# Altium integrated library Altera Cyclone IV E.IntLib: 141 symbols (part 24 of 34)
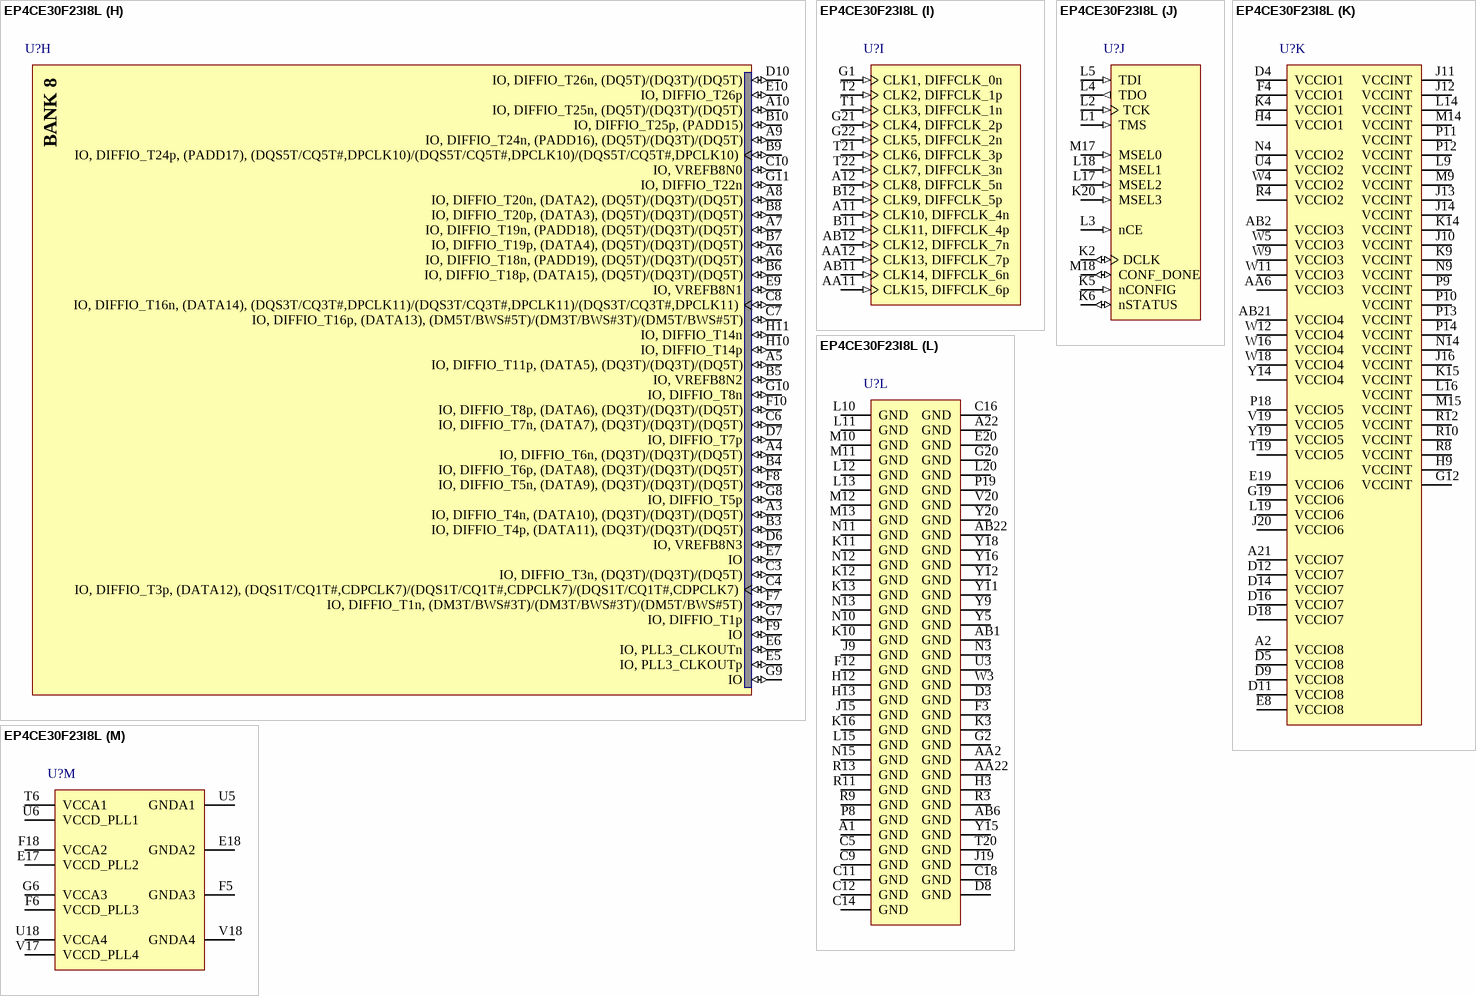
[diagram p414: symbol EP4CE30F23I8L]

## EP4CE30F23I8L
designator U?
Cyclone IV Family FPGA, 1V Core, 328 I/O Pins, 4 PLLs, 484-Pin FBGA, Speed Grade 8, Industrial Grade; Published: 3-May-2010; DatasheetVersion: ver1.2, Mar-2010; PackageVersion: ver16.0, Dec-2009; PackageReference: FBGA484; Publisher: Altium Limited; PackageDescription: 484-Ball FineLine Ball Grid Array (FBGA484) - Flip Chip; Supplier 1: Digi-Key; Supplier Part Number 1: EP4CE30F23I8L-ND; Code_JEDEC: MS-034-AAJ-1; Code_IPC: BGA100P22X22-484; ComponentLink1Description: Manufacturer Link; ComponentLink1URL: http://www.altera.com/; ComponentLink2Description: Handbook; ComponentLink2URL: http://www.altera.com/literature/hb/cyclone-iv/cyclone4-handbook.pdf; ComponentLink3Description: Pinout Specification; ComponentLink3URL: http://www.altera.com/literature/lit-dp.jsp?category=cyc%204&showspreadsheet=y; ComponentLink4Description: Packaging Specification; ComponentLink4URL: http://www.altera.com/literature/ds/dspkg.pdf
footprint FBGA484 (BGA, 484-Leads, Body 23x23mm, Pitch 1mm)
signal-integrity model EP4CE_F484 (Cyclone IV)
part A pins: B1 IO, DIFFIO_L2n, (DQ2L)/(DQ1L)/(DQ1L) (io), B2 IO, DIFFIO_L2p, (DQ2L)/(DQ1L)/(DQ1L) (io), C1 IO, DIFFIO_L7n, (DQ2L)/(DQ1L)/(DQ1L) (io), C2 IO, DIFFIO_L7p, (DQS2L/CQ3L,CDPCLK0)/(DQS2L/CQ3L,CDPCLK0)/(DQS2L/CQ3L,CDPCLK0) (io), D1 IO, DIFFIO_L8n, (DATA1,ASDO) (io), D2 IO, DIFFIO_L8p, (DQ2L)/(DQ1L)/(DQ1L) (io), E1 IO, DIFFIO_L10n, (_)/(DQ1L)/(DQ1L) (io), E2 IO, DIFFIO_L10p, (FLASH_nCE,nCSO) (io), E3 IO, DIFFIO_L4n, (DQ2L)/(DQ1L)/(DQ1L) (io), E4 IO, DIFFIO_L4p, (nRESET), (DQ2L)/(DQ1L)/(DQ1L) (io), F1 IO, DIFFIO_L12n, (DQ0L)/(DQ1L)/(DQ1L) (io), F2 IO, DIFFIO_L12p, (DM2L)/(DM1L/BWS#1L)/(DM1L/BWS#1L) (io), G3 IO, DIFFIO_L1n (io), G4 IO, DIFFIO_L1p (io), G5 IO, VREFB1N0 (io), H1 IO, DIFFIO_L23n, (DQ0L)/(DQ1L)/(DQ1L) (io), H2 IO, DIFFIO_L23p, (DQ0L)/(DQ1L)/(DQ1L) (io), H5 IO, VREFB1N2 (io), H6 IO, DIFFIO_L9p, (DQ2L)/(DQ1L)/(DQ1L) (io), H7 IO, VREFB1N1 (io), H8 IO, DIFFIO_L14p (io), J1 IO, DIFFIO_L24n, (DQ0L)/(DQ1L)/(DQ1L) (io), J2 IO, DIFFIO_L24p, (DQ0L)/(DQ1L)/(DQ1L) (io), J3 IO, VREFB1N3 (io), J4 IO, (DQS0L/CQ1L,DPCLK0)/(DQS0L/CQ1L,DPCLK0)/(DQS0L/CQ1L,DPCLK0) (io), J5 IO, DIFFIO_L18n (io), J6 IO, DIFFIO_L9n, (DQ2L)/(DQ1L)/(DQ1L) (io), J7 IO, DIFFIO_L21p (io), J8 IO, DIFFIO_L14n (io), K1 IO, (DATA0) (io), K7 IO, DIFFIO_L21n (io), K8 IO, DIFFIO_L20n (io), L8 IO, DIFFIO_L20p (io)
part B pins: AA1 IO, DIFFIO_L50n, (DQ3L)/(DQ3L)/(DQ1L) (io), L6 IO, DIFFIO_L26p, (DQ0L)/(DQ1L)/(DQ1L) (io), L7 IO, DIFFIO_L30n (io), M1 IO, DIFFIO_L27n, (_)/(DQ1L)/(DQ1L) (io), M2 IO, DIFFIO_L27p, (DQ0L)/(DQ1L)/(DQ1L) (io), M3 IO, DIFFIO_L28n, (DQ1L)/(DQ3L)/(DQ1L) (io), M4 IO, DIFFIO_L28p, (DM0L)/(DM1L/BWS#1L)/(DM1L/BWS#1L) (io), M5 IO, VREFB2N0 (io), M6 IO, DIFFIO_L26n, (DQ0L)/(DQ1L)/(DQ1L) (io), M7 IO, DIFFIO_L41n (io), M8 IO, DIFFIO_L42p (io), N1 IO, DIFFIO_L29n, (DQ1L)/(DQ3L)/(DQ1L) (io), N2 IO, DIFFIO_L29p, (DQ1L)/(DQ3L)/(DQ1L) (io), N5 IO, (DQ1L)/(DQ3L)/(DQ1L) (io), N6 IO, DIFFIO_L41p, (DQ3L)/(DQ3L)/(DQ1L) (io), N7 IO, DIFFIO_L49p (io), N8 IO, DIFFIO_L42n (io), P1 IO, DIFFIO_L32n, (DQ1L)/(DQ3L)/(DQ1L) (io), P2 IO, DIFFIO_L32p, (DQ1L)/(DQ3L)/(DQ1L) (io), P3 IO, DIFFIO_L34n, (DQ1L)/(DQ3L)/(DQ1L) (io), P4 IO, DIFFIO_L34p, (DQS1L/CQ1L#,DPCLK1)/(DQS1L/CQ1L#,DPCLK1)/(DQS1L/CQ1L#,DPCLK1) (io), P5 IO, VREFB2N1 (io), P6 IO, DIFFIO_L52p (io), P7 IO, DIFFIO_L49n (io), R1 IO, DIFFIO_L33n, (DQ1L)/(DQ3L)/(DQ1L) (io), R2 IO, DIFFIO_L33p, (DQ1L)/(DQ3L)/(DQ1L) (io), R5 IO, VREFB2N3 (io), R6 IO (io), R7 IO, DIFFIO_L53p (io), T3 IO, VREFB2N2 (io), T4 IO, (DQS3L/CQ3L#,CDPCLK1)/(DQS3L/CQ3L#,CDPCLK1)/(DQS3L/CQ3L#,CDPCLK1) (io), T5 IO, (DM3L/BWS#3L)/(DM3L/BWS#3L)/(DM1L/BWS#1L) (io), T7 IO, DIFFIO_L53n (io), U1 IO, DIFFIO_L35n, (DQ3L)/(DQ3L)/(DQ1L) (io), U2 IO, DIFFIO_L35p, (DM1L/BWS#1L)/(DM3L/BWS#3L)/(DM1L/BWS#1L) (io), V1 IO, DIFFIO_L38n, (DQ3L)/(DQ3L)/(DQ1L) (io), V2 IO, DIFFIO_L38p, (DQ3L)/(DQ3L)/(DQ1L) (io), V3 IO, RDN1 (io), V4 IO, RUP1 (io), W1 IO, DIFFIO_L44n, (DQ3L)/(DQ3L)/(DQ1L) (io), W2 IO, DIFFIO_L44p, (DQ3L)/(DQ3L)/(DQ1L) (io), Y1 IO, DIFFIO_L45n, (DQ3L)/(DQ3L)/(DQ1L) (io), Y2 IO, DIFFIO_L45p, (DQ3L)/(DQ3L)/(DQ1L) (io)
part C pins: AA3 IO, PLL1_CLKOUTp (io), AA4 IO, (DQ3B)/(DQ3B)/(DQ5B) (io), AA5 IO, DIFFIO_B8p, (DQ3B)/(DQ3B)/(DQ5B) (io), AA7 IO, DIFFIO_B14p, (DM5B/BWS#5B)/(DM3B/BWS#3B)/(DM5B/BWS#5B) (io), AA8 IO, DIFFIO_B18p, (DQ5B)/(DQ3B)/(DQ5B) (io), AA9 IO, DIFFIO_B21p, (DQ5B)/(DQ3B)/(DQ5B) (io), AA10 IO, DIFFIO_B27p, (DM4B)/(DM5B/BWS#5B)/(DM5B/BWS#5B) (io), AB3 IO, PLL1_CLKOUTn (io), AB4 IO, VREFB3N2 (io), AB5 IO, DIFFIO_B8n (io), AB7 IO, DIFFIO_B14n, (DQ5B)/(DQ3B)/(DQ5B) (io), AB8 IO, DIFFIO_B18n, (DQ5B)/(DQ3B)/(DQ5B) (io), AB9 IO, DIFFIO_B21n, (DQS5B/CQ5B#,DPCLK3)/(DQS5B/CQ5B#,DPCLK3)/(DQS5B/CQ5B#,DPCLK3) (io), AB10 IO, DIFFIO_B27n, (_)/(DQ5B)/(DQ5B) (io), T8 IO, DIFFIO_B11p (io), T9 IO, DIFFIO_B11n (io), T10 IO, DIFFIO_B15p (io), T11 IO, DIFFIO_B15n (io), U7 IO, DIFFIO_B3p (io), U8 IO, DIFFIO_B3n (io), U9 IO, DIFFIO_B13p, (DQ3B)/(DQ3B)/(DQ5B) (io), U10 IO, DIFFIO_B17n, (DQ5B)/(DQ3B)/(DQ5B) (io), U11 IO, VREFB3N0 (io), V5 IO, DIFFIO_B1n, (DM3B/BWS#3B)/(DM3B/BWS#3B)/(DM5B/BWS#5B) (io), V6 IO, DIFFIO_B1p (io), V7 IO, DIFFIO_B7n (io), V8 IO, DIFFIO_B13n, (DQ3B)/(DQ3B)/(DQ5B) (io), V9 IO, VREFB3N1 (io), V10 IO, DIFFIO_B16p, (DQS3B/CQ3B#,DPCLK2)/(DQS3B/CQ3B#,DPCLK2)/(DQS3B/CQ3B#,DPCLK2) (io), V11 IO, DIFFIO_B25n, (DQ5B)/(DQ3B)/(DQ5B) (io), W6 IO, DIFFIO_B7p, (DQ3B)/(DQ3B)/(DQ5B) (io), W7 IO, DIFFIO_B12p, (DQ3B)/(DQ3B)/(DQ5B) (io), W8 IO, (DQ3B)/(DQ3B)/(DQ5B) (io), W10 IO, DIFFIO_B26p, (DQ5B)/(DQ3B)/(DQ5B) (io), Y3 IO, DIFFIO_B4p, (DQ3B)/(DQ3B)/(DQ5B) (io), Y4 IO, VREFB3N3 (io), Y6 IO, DIFFIO_B6p, (DQS1B/CQ1B#,CDPCLK2)/(DQS1B/CQ1B#,CDPCLK2)/(DQS1B/CQ1B#,CDPCLK2) (io), Y7 IO, DIFFIO_B12n, (DQ3B)/(DQ3B)/(DQ5B) (io), Y8 IO, (DQ5B)/(DQ3B)/(DQ5B) (io), Y10 IO, DIFFIO_B26n, (DQ5B)/(DQ3B)/(DQ5B) (io)
part D pins: AA13 IO, DIFFIO_B28p, (DQ4B)/(DQ5B)/(DQ5B) (io), AA14 IO, DIFFIO_B29p, (DQ4B)/(DQ5B)/(DQ5B) (io), AA15 IO, DIFFIO_B33p, (DQ4B)/(DQ5B)/(DQ5B) (io), AA16 IO, DIFFIO_B35p, (DM2B)/(DM5B/BWS#5B)/(DM5B/BWS#5B) (io), AA17 IO, DIFFIO_B43p (io), AA18 IO, VREFB4N1 (io), AA19 IO, RUP2 (io), AA20 IO, DIFFIO_B49p, (_)/(DQ5B)/(DQ5B) (io), AB13 IO, DIFFIO_B28n, (DQ4B)/(DQ5B)/(DQ5B) (io), AB14 IO, DIFFIO_B29n, (DQ4B)/(DQ5B)/(DQ5B) (io), AB15 IO, DIFFIO_B33n, (DQ4B)/(DQ5B)/(DQ5B) (io), AB16 IO, DIFFIO_B35n, (DQ2B)/(DQ5B)/(DQ5B) (io), AB17 IO, DIFFIO_B43n (io), AB18 IO, (DQ2B)/(DQ5B)/(DQ5B) (io), AB19 IO, RDN2 (io), AB20 IO, DIFFIO_B49n, (DQ2B)/(DQ5B)/(DQ5B) (io), R14 IO, DIFFIO_B52p (io), R15 IO, DIFFIO_B52n (io), R16 IO, PLL4_CLKOUTn (io), T12 IO, DIFFIO_B36p (io), T13 IO, DIFFIO_B36n (io), T14 IO, DIFFIO_B42p (io), T15 IO, DIFFIO_B42n, (DQ2B)/(DQ5B)/(DQ5B) (io), T16 IO, PLL4_CLKOUTp (io), U12 IO, DIFFIO_B34p, (DQ4B)/(DQ5B)/(DQ5B) (io), U13 IO, DIFFIO_B38n (io), U14 IO, DIFFIO_B39n (io), U15 IO, DIFFIO_B40p (io), U16 IO, DIFFIO_B50p (io), U17 IO, DIFFIO_B50n (io), V12 IO, VREFB4N3 (io), V13 IO, (DQS2B/CQ3B,DPCLK5)/(DQS2B/CQ3B,DPCLK5)/(DQS2B/CQ3B,DPCLK5) (io), V14 IO, DIFFIO_B39p, (DQ2B)/(DQ5B)/(DQ5B) (io), V15 IO, DIFFIO_B40n, (DQ2B)/(DQ5B)/(DQ5B) (io), V16 IO, VREFB4N0 (io), W13 IO, DIFFIO_B32p, (DQ4B)/(DQ5B)/(DQ5B) (io), W14 IO, VREFB4N2 (io), W15 IO, DIFFIO_B41n, (DQ2B)/(DQ5B)/(DQ5B) (io), W17 IO, DIFFIO_B48p, (DQ2B)/(DQ5B)/(DQ5B) (io), Y13 IO, DIFFIO_B32n, (DQS4B/CQ5B,DPCLK4)/(DQS4B/CQ5B,DPCLK4)/(DQS4B/CQ5B,DPCLK4) (io), Y17 IO, DIFFIO_B48n, (DQS0B/CQ1B,CDPCLK3)/(DQS0B/CQ1B,CDPCLK3)/(DQS0B/CQ1B,CDPCLK3) (io)
part E pins: AA21 IO, DIFFIO_R56p, (DM3R/BWS#3R)/(DM3R/BWS#3R)/(DM1R/BWS#1R) (io), M16 IO, VREFB5N0 (io), M19 IO, DIFFIO_R30p, (DQ1R)/(DQ3R)/(DQ1R) (io), M20 IO, DIFFIO_R30n, (DQ1R)/(DQ3R)/(DQ1R) (io), M21 IO, DIFFIO_R31p, (DQ1R)/(DQ3R)/(DQ1R) (io), M22 IO, DIFFIO_R31n, (DQ1R)/(DQ3R)/(DQ1R) (io), N16 IO, DIFFIO_R40p (io), N17 IO, DIFFIO_R33n (io), N18 IO, DIFFIO_R33p, (DQS1R/CQ1R#,DPCLK6)/(DQS1R/CQ1R#,DPCLK6)/(DQS1R/CQ1R#,DPCLK6) (io), N19 IO, DIFFIO_R36p (io), N20 IO, DIFFIO_R36n, (DQ1R)/(DQ3R)/(DQ1R) (io), N21 IO, DIFFIO_R32p, (DEV_CLRn) (io), N22 IO, DIFFIO_R32n, (DEV_OE) (io), P15 IO, DIFFIO_R46n (io), P16 IO, DIFFIO_R46p (io), P17 IO (io), P20 IO, VREFB5N1 (io), P21 IO, DIFFIO_R38p, (DQ1R)/(DQ3R)/(DQ1R) (io), P22 IO, DIFFIO_R38n, (DQ1R)/(DQ3R)/(DQ1R) (io), R17 IO, VREFB5N2 (io), R18 IO, DIFFIO_R42n (io), R19 IO, DIFFIO_R42p, (DM1R/BWS#1R)/(DM3R/BWS#3R)/(DM1R/BWS#1R) (io), R20 IO, DIFFIO_R44n, (DQ3R)/(DQ3R)/(DQ1R) (io), R21 IO, DIFFIO_R39p, (DQ1R)/(DQ3R)/(DQ1R) (io), R22 IO, DIFFIO_R39n, (DQ1R)/(DQ3R)/(DQ1R) (io), T17 IO, RUP3 (io), T18 IO, RDN3 (io), U19 IO, DIFFIO_R50p (io), U20 IO, DIFFIO_R50n, (DQ3R)/(DQ3R)/(DQ1R) (io), U21 IO, DIFFIO_R43p, (DQ3R)/(DQ3R)/(DQ1R) (io), U22 IO, DIFFIO_R43n, (DQ3R)/(DQ3R)/(DQ1R) (io), V21 IO, DIFFIO_R45p, (DQ3R)/(DQ3R)/(DQ1R) (io), V22 IO, DIFFIO_R45n, (DQ3R)/(DQ3R)/(DQ1R) (io), W19 IO, VREFB5N3 (io), W20 IO, (DQS3R/CQ3R#,CDPCLK4)/(DQS3R/CQ3R#,CDPCLK4)/(DQS3R/CQ3R#,CDPCLK4) (io), W21 IO, DIFFIO_R49p, (DQ3R)/(DQ3R)/(DQ1R) (io), W22 IO, DIFFIO_R49n, (DQ3R)/(DQ3R)/(DQ1R) (io), Y21 IO, DIFFIO_R51p (io), Y22 IO, DIFFIO_R51n, (DQ3R)/(DQ3R)/(DQ1R) (io)
part F pins: B21 IO, DIFFIO_R5p, (PADD21), (DQ2R)/(DQ1R)/(DQ1R) (io), B22 IO, DIFFIO_R5n, (PADD22), (DQ2R)/(DQ1R)/(DQ1R) (io), C20 IO, DIFFIO_R4n, (PADD20), (DQS2R/CQ3R,CDPCLK5)/(DQS2R/CQ3R,CDPCLK5)/(DQS2R/CQ3R,CDPCLK5) (io), C21 IO, DIFFIO_R6p, (DQ2R)/(DQ1R)/(DQ1R) (io), C22 IO, DIFFIO_R6n, (DQ2R)/(DQ1R)/(DQ1R) (io), D20 IO, VREFB6N0 (io), D21 IO, DIFFIO_R9p, (_)/(DQ1R)/(DQ1R) (io), D22 IO, DIFFIO_R9n, (DM2R)/(DM1R/BWS#1R)/(DM1R/BWS#1R) (io), E21 IO, DIFFIO_R12p, (nOE), (_)/(DQ1R)/(DQ1R) (io), E22 IO, DIFFIO_R12n, (nWE), (DQ0R)/(DQ1R)/(DQ1R) (io), F17 IO, DIFFIO_R2n, (DQ2R)/(DQ1R)/(DQ1R) (io), F19 IO, DIFFIO_R8p, (DQ2R)/(DQ1R)/(DQ1R) (io), F20 IO, DIFFIO_R8n, (nAVD), (DQ2R)/(DQ1R)/(DQ1R) (io), F21 IO, DIFFIO_R18p, (DQ0R)/(DQ1R)/(DQ1R) (io), F22 IO, DIFFIO_R18n, (DQ0R)/(DQ1R)/(DQ1R) (io), G17 IO, DIFFIO_R2p (io), G18 IO, DIFFIO_R7n, (PADD23), (DQ2R)/(DQ1R)/(DQ1R) (io), H16 IO, DIFFIO_R10p (io), H17 IO, DIFFIO_R7p (io), H18 IO, VREFB6N1 (io), H19 IO, DIFFIO_R13p, (DQ0R)/(DQ1R)/(DQ1R) (io), H20 IO, DIFFIO_R13n, (DQ0R)/(DQ1R)/(DQ1R) (io), H21 IO, DIFFIO_R22p, (DQ0R)/(DQ1R)/(DQ1R) (io), H22 IO, DIFFIO_R22n, (DQ0R)/(DQ1R)/(DQ1R) (io), J17 IO, DIFFIO_R10n (io), J18 IO, VREFB6N2 (io), J21 IO, DIFFIO_R23p, (DM0R)/(DM1R/BWS#1R)/(DM1R/BWS#1R) (io), J22 IO, DIFFIO_R23n, (DQS0R/CQ1R,DPCLK7)/(DQS0R/CQ1R,DPCLK7)/(DQS0R/CQ1R,DPCLK7) (io), K17 IO, DIFFIO_R20n (io), K18 IO, DIFFIO_R20p, (DQ0R)/(DQ1R)/(DQ1R) (io), K19 IO, VREFB6N3 (io), K21 IO, DIFFIO_R24p, (CLKUSR) (io), K22 IO, DIFFIO_R24n, (nCEO) (io), L21 IO, DIFFIO_R27p, (CRC_ERROR) (io), L22 IO, DIFFIO_R27n, (INIT_DONE) (io)
part G pins: A13 IO, DIFFIO_T29n, (PADD11), (DQ4T)/(DQ5T)/(DQ5T) (io), A14 IO, DIFFIO_T31n, (PADD9), (DQ4T)/(DQ5T)/(DQ5T) (io), A15 IO, DIFFIO_T36n, (PADD5), (DQ4T)/(DQ5T)/(DQ5T) (io), A16 IO, DIFFIO_T40n, (DM2T)/(DM5T/BWS#5T)/(DM5T/BWS#5T) (io), A17 IO, DIFFIO_T41n, (PADD1), (DQ2T)/(DQ5T)/(DQ5T) (io), A18 IO, DIFFIO_T45n, (DQ2T)/(DQ5T)/(DQ5T) (io), A19 IO, RDN4 (io), A20 IO, PLL2_CLKOUTn (io), B13 IO, DIFFIO_T29p, (PADD12), (DQS4T/CQ5T,DPCLK9)/(DQS4T/CQ5T,DPCLK9)/(DQS4T/CQ5T,DPCLK9) (io), B14 IO, DIFFIO_T31p, (PADD10), (DQ4T)/(DQ5T)/(DQ5T) (io), B15 IO, DIFFIO_T36p, (PADD6), (DQ4T)/(DQ5T)/(DQ5T) (io), B16 IO, DIFFIO_T40p, (DQ4T)/(DQ5T)/(DQ5T) (io), B17 IO, DIFFIO_T41p, (PADD2), (_)/(DQ5T)/(DQ5T) (io), B18 IO, DIFFIO_T45p, (PADD0) (io), B19 IO, RUP4 (io), B20 IO, PLL2_CLKOUTp (io), C13 IO, DIFFIO_T35n, (PADD7) (io), C15 IO, VREFB7N2 (io), C17 IO, DIFFIO_T46p, (DQ2T)/(DQ5T)/(DQ5T) (io), C19 IO, DIFFIO_T47n, (DQ2T)/(DQ5T)/(DQ5T) (io), D13 IO, DIFFIO_T35p, (PADD8), (DQ4T)/(DQ5T)/(DQ5T) (io), D15 IO, VREFB7N1 (io), D17 IO, VREFB7N0 (io), D19 IO, DIFFIO_T47p, (DQ2T)/(DQ5T)/(DQ5T) (io), E11 IO, DIFFIO_T27n, (PADD13) (io), E12 IO, DIFFIO_T28p, (_)/(DQ5T)/(DQ5T) (io), E13 IO, VREFB7N3 (io), E14 IO, DIFFIO_T38n, (PADD3), (DQ4T)/(DQ5T)/(DQ5T) (io), E15 IO, DIFFIO_T44n, (DQ2T)/(DQ5T)/(DQ5T) (io), E16 IO, DIFFIO_T51p, (DQ2T)/(DQ5T)/(DQ5T) (io), F11 IO, DIFFIO_T27p, (PADD14), (DM4T)/(DM5T/BWS#5T)/(DM5T/BWS#5T) (io), F13 IO, DIFFIO_T37p, (PADD4), (DQS2T/CQ3T,DPCLK8)/(DQS2T/CQ3T,DPCLK8)/(DQS2T/CQ3T,DPCLK8) (io), F14 IO, DIFFIO_T49p, (DQS0T/CQ1T,CDPCLK6)/(DQS0T/CQ1T,CDPCLK6)/(DQS0T/CQ1T,CDPCLK6) (io), F15 IO, DIFFIO_T50n, (DQ2T)/(DQ5T)/(DQ5T) (io), F16 IO, DIFFIO_T51n (io), G13 IO, DIFFIO_T42n (io), G14 IO, DIFFIO_T44p (io), G15 IO, DIFFIO_T49n (io), G16 IO, DIFFIO_T50p (io), H14 IO, DIFFIO_T48p (io), H15 IO, DIFFIO_T48n (io)
part H pins: A3 IO, DIFFIO_T4n, (DATA10), (DQ3T)/(DQ3T)/(DQ5T) (io), A4 IO, DIFFIO_T6n, (DQ3T)/(DQ3T)/(DQ5T) (io), A5 IO, DIFFIO_T11p, (DATA5), (DQ3T)/(DQ3T)/(DQ5T) (io), A6 IO, DIFFIO_T18n, (PADD19), (DQ5T)/(DQ3T)/(DQ5T) (io), A7 IO, DIFFIO_T19n, (PADD18), (DQ5T)/(DQ3T)/(DQ5T) (io), A8 IO, DIFFIO_T20n, (DATA2), (DQ5T)/(DQ3T)/(DQ5T) (io), A9 IO, DIFFIO_T24n, (PADD16), (DQ5T)/(DQ3T)/(DQ5T) (io), A10 IO, DIFFIO_T25n, (DQ5T)/(DQ3T)/(DQ5T) (io), B3 IO, DIFFIO_T4p, (DATA11), (DQ3T)/(DQ3T)/(DQ5T) (io), B4 IO, DIFFIO_T6p, (DATA8), (DQ3T)/(DQ3T)/(DQ5T) (io), B5 IO, VREFB8N2 (io), B6 IO, DIFFIO_T18p, (DATA15), (DQ5T)/(DQ3T)/(DQ5T) (io), B7 IO, DIFFIO_T19p, (DATA4), (DQ5T)/(DQ3T)/(DQ5T) (io), B8 IO, DIFFIO_T20p, (DATA3), (DQ5T)/(DQ3T)/(DQ5T) (io), B9 IO, DIFFIO_T24p, (PADD17), (DQS5T/CQ5T#,DPCLK10)/(DQS5T/CQ5T#,DPCLK10)/(DQS5T/CQ5T#,DPCLK10) (io), B10 IO, DIFFIO_T25p, (PADD15) (io), C3 IO, DIFFIO_T3n, (DQ3T)/(DQ3T)/(DQ5T) (io), C4 IO, DIFFIO_T3p, (DATA12), (DQS1T/CQ1T#,CDPCLK7)/(DQS1T/CQ1T#,CDPCLK7)/(DQS1T/CQ1T#,CDPCLK7) (io), C6 IO, DIFFIO_T7n, (DATA7), (DQ3T)/(DQ3T)/(DQ5T) (io), C7 IO, DIFFIO_T16p, (DATA13), (DM5T/BWS#5T)/(DM3T/BWS#3T)/(DM5T/BWS#5T) (io), C8 IO, DIFFIO_T16n, (DATA14), (DQS3T/CQ3T#,DPCLK11)/(DQS3T/CQ3T#,DPCLK11)/(DQS3T/CQ3T#,DPCLK11) (io), C10 IO, VREFB8N0 (io), D6 IO, VREFB8N3 (io), D7 IO, DIFFIO_T7p (io), D10 IO, DIFFIO_T26n, (DQ5T)/(DQ3T)/(DQ5T) (io), E5 IO, PLL3_CLKOUTp (io), E6 IO, PLL3_CLKOUTn (io), E7 IO (io), E9 IO, VREFB8N1 (io), E10 IO, DIFFIO_T26p (io), F7 IO, DIFFIO_T1n, (DM3T/BWS#3T)/(DM3T/BWS#3T)/(DM5T/BWS#5T) (io), F8 IO, DIFFIO_T5n, (DATA9), (DQ3T)/(DQ3T)/(DQ5T) (io), F9 IO (io), F10 IO, DIFFIO_T8p, (DATA6), (DQ3T)/(DQ3T)/(DQ5T) (io), G7 IO, DIFFIO_T1p (io), G8 IO, DIFFIO_T5p (io), G9 IO (io), G10 IO, DIFFIO_T8n (io), G11 IO, DIFFIO_T22n (io), H10 IO, DIFFIO_T14p (io), H11 IO, DIFFIO_T14n (io)
part I pins: A11 CLK10, DIFFCLK_4n (in), A12 CLK8, DIFFCLK_5n (in), AA11 CLK15, DIFFCLK_6p (in), AA12 CLK13, DIFFCLK_7p (in), AB11 CLK14, DIFFCLK_6n (in), AB12 CLK12, DIFFCLK_7n (in), B11 CLK11, DIFFCLK_4p (in), B12 CLK9, DIFFCLK_5p (in), G1 CLK1, DIFFCLK_0n (in), G21 CLK4, DIFFCLK_2p (in), G22 CLK5, DIFFCLK_2n (in), T1 CLK3, DIFFCLK_1n (in), T2 CLK2, DIFFCLK_1p (in), T21 CLK6, DIFFCLK_3p (in), T22 CLK7, DIFFCLK_3n (in)
part J pins: K2 DCLK (io), K5 nCONFIG (in), K6 nSTATUS (io), K20 MSEL3 (in), L1 TMS (in), L2 TCK (in), L3 nCE (in), L4 TDO (out), L5 TDI (in), L17 MSEL2 (in), L18 MSEL1 (in), M17 MSEL0 (in), M18 CONF_DONE (io)
part K pins: A2 VCCIO8 (power), A21 VCCIO7 (power), AA6 VCCIO3 (power), AB2 VCCIO3 (power), AB21 VCCIO4 (power), D4 VCCIO1 (power), D5 VCCIO8 (power), D9 VCCIO8 (power), D11 VCCIO8 (power), D12 VCCIO7 (power), D14 VCCIO7 (power), D16 VCCIO7 (power), D18 VCCIO7 (power), E8 VCCIO8 (power), E19 VCCIO6 (power), F4 VCCIO1 (power), G12 VCCINT (power), G19 VCCIO6 (power), H4 VCCIO1 (power), H9 VCCINT (power), J10 VCCINT (power), J11 VCCINT (power), J12 VCCINT (power), J13 VCCINT (power), J14 VCCINT (power), J16 VCCINT (power), J20 VCCIO6 (power), K4 VCCIO1 (power), K9 VCCINT (power), K14 VCCINT (power), K15 VCCINT (power), L9 VCCINT (power), L14 VCCINT (power), L16 VCCINT (power), L19 VCCIO6 (power), M9 VCCINT (power), M14 VCCINT (power), M15 VCCINT (power), N4 VCCIO2 (power), N9 VCCINT (power), N14 VCCINT (power), P9 VCCINT (power), P10 VCCINT (power), P11 VCCINT (power), P12 VCCINT (power), P13 VCCINT (power), P14 VCCINT (power), P18 VCCIO5 (power), R4 VCCIO2 (power), R8 VCCINT (power), R10 VCCINT (power), R12 VCCINT (power), T19 VCCIO5 (power), U4 VCCIO2 (power), V19 VCCIO5 (power), W4 VCCIO2 (power), W5 VCCIO3 (power), W9 VCCIO3 (power), W11 VCCIO3 (power), W12 VCCIO4 (power), W16 VCCIO4 (power), W18 VCCIO4 (power), Y14 VCCIO4 (power), Y19 VCCIO5 (power)
part L pins: A1 GND (power), A22 GND (power), AA2 GND (power), AA22 GND (power), AB1 GND (power), AB6 GND (power), AB22 GND (power), C5 GND (power), C9 GND (power), C11 GND (power), C12 GND (power), C14 GND (power), C16 GND (power), C18 GND (power), D3 GND (power), D8 GND (power), E20 GND (power), F3 GND (power), F12 GND (power), G2 GND (power), G20 GND (power), H3 GND (power), H12 GND (power), H13 GND (power), J9 GND (power), J15 GND (power), J19 GND (power), K3 GND (power), K10 GND (power), K11 GND (power), K12 GND (power), K13 GND (power), K16 GND (power), L10 GND (power), L11 GND (power), L12 GND (power), L13 GND (power), L15 GND (power), L20 GND (power), M10 GND (power), M11 GND (power), M12 GND (power), M13 GND (power), N3 GND (power), N10 GND (power), N11 GND (power), N12 GND (power), N13 GND (power), N15 GND (power), P8 GND (power), P19 GND (power), R3 GND (power), R9 GND (power), R11 GND (power), R13 GND (power), T20 GND (power), U3 GND (power), V20 GND (power), W3 GND (power), Y5 GND (power), Y9 GND (power), Y11 GND (power), Y12 GND (power), Y15 GND (power), Y16 GND (power), Y18 GND (power), Y20 GND (power)
part M pins: E17 VCCD_PLL2 (power), E18 GNDA2 (power), F5 GNDA3 (power), F6 VCCD_PLL3 (power), F18 VCCA2 (power), G6 VCCA3 (power), T6 VCCA1 (power), U5 GNDA1 (power), U6 VCCD_PLL1 (power), U18 VCCA4 (power), V17 VCCD_PLL4 (power), V18 GNDA4 (power)
part A text: BANK 1
part B text: BANK 2
part C text: BANK 3
part D text: BANK 4
part E text: BANK 5
part F text: BANK 6
part G text: BANK 7
part H text: BANK 8

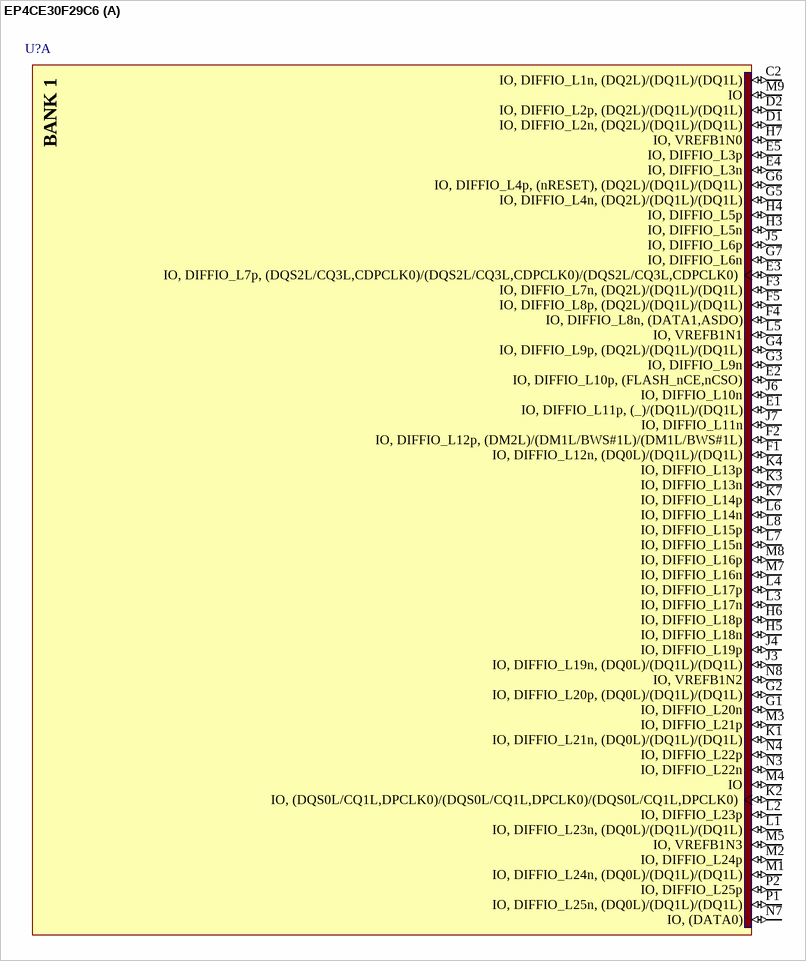
[diagram p112: symbol EP4CE30F29C6]

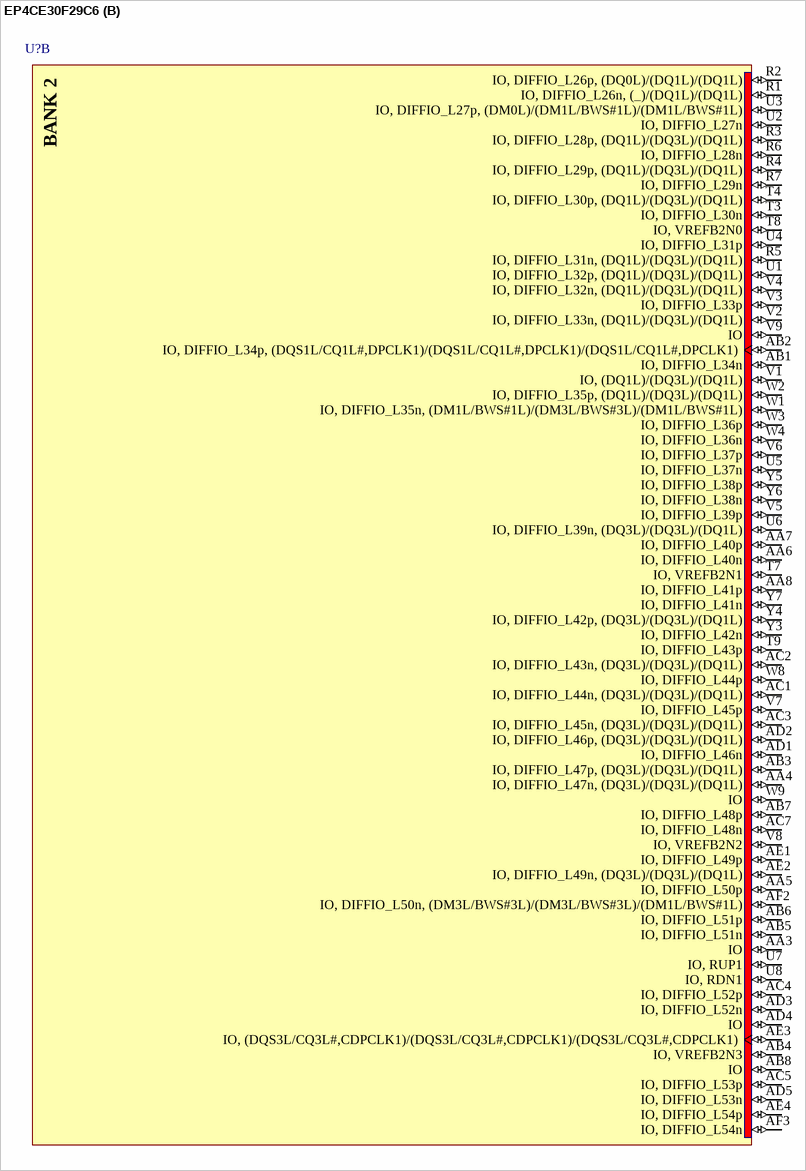
[diagram p113: symbol EP4CE30F29C6]

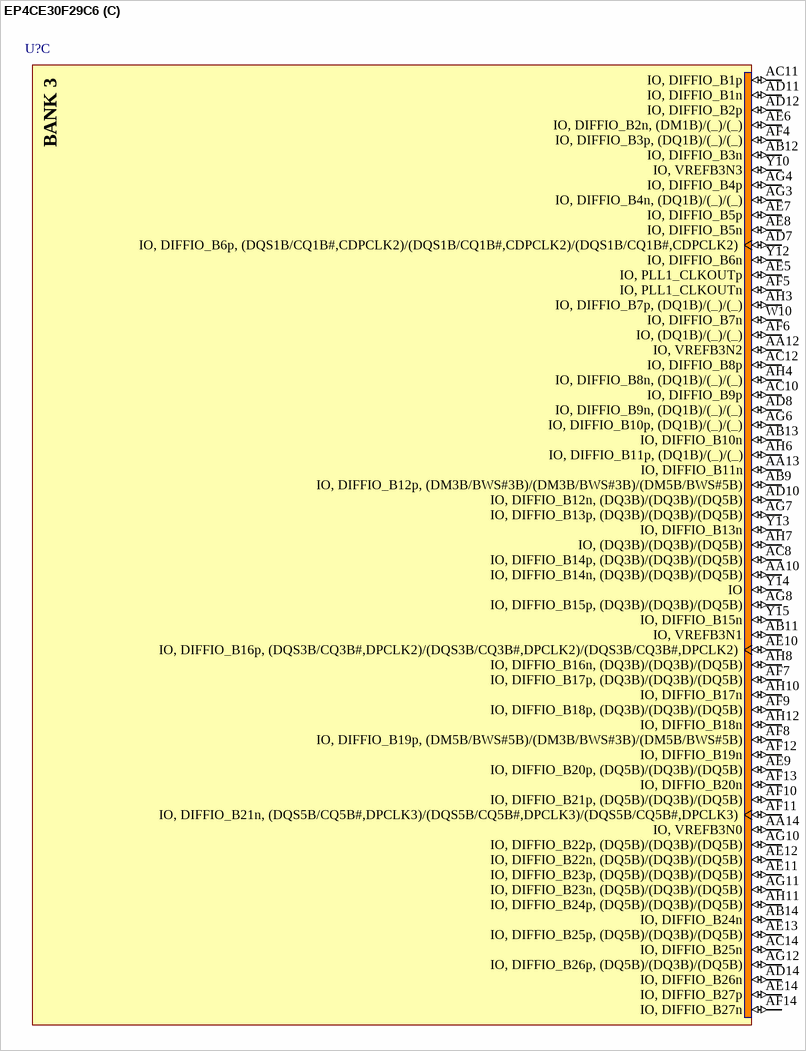
[diagram p114: symbol EP4CE30F29C6]

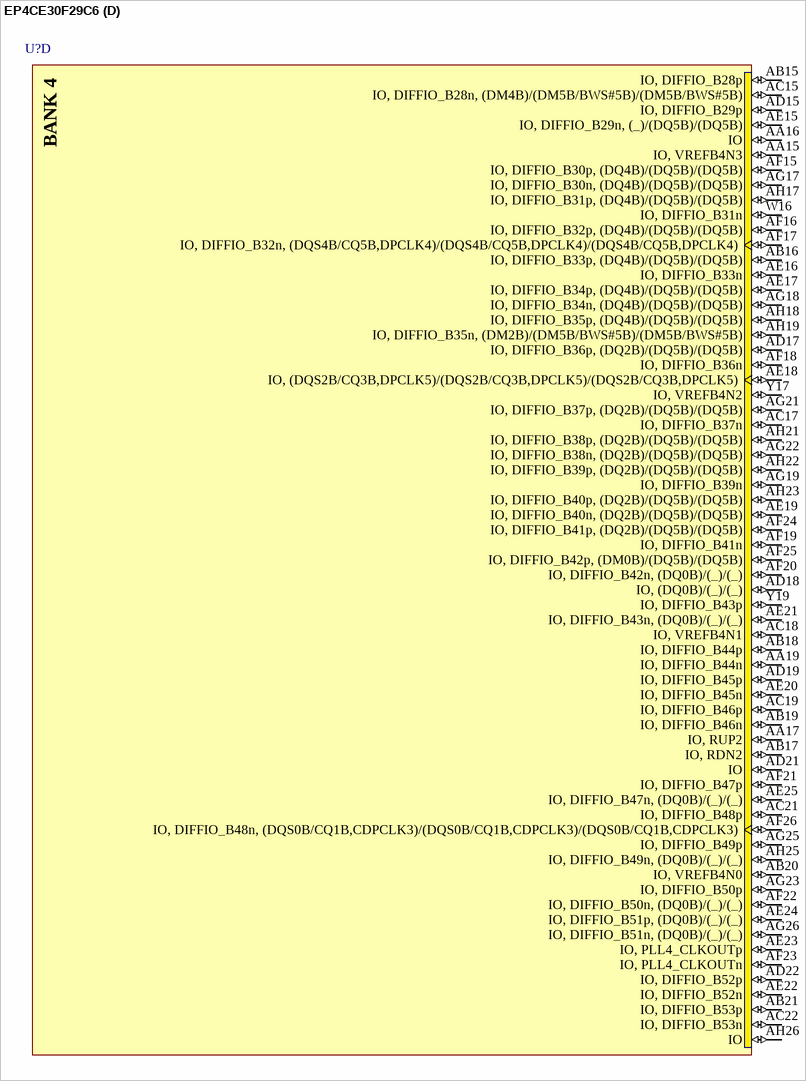
[diagram p115: symbol EP4CE30F29C6]

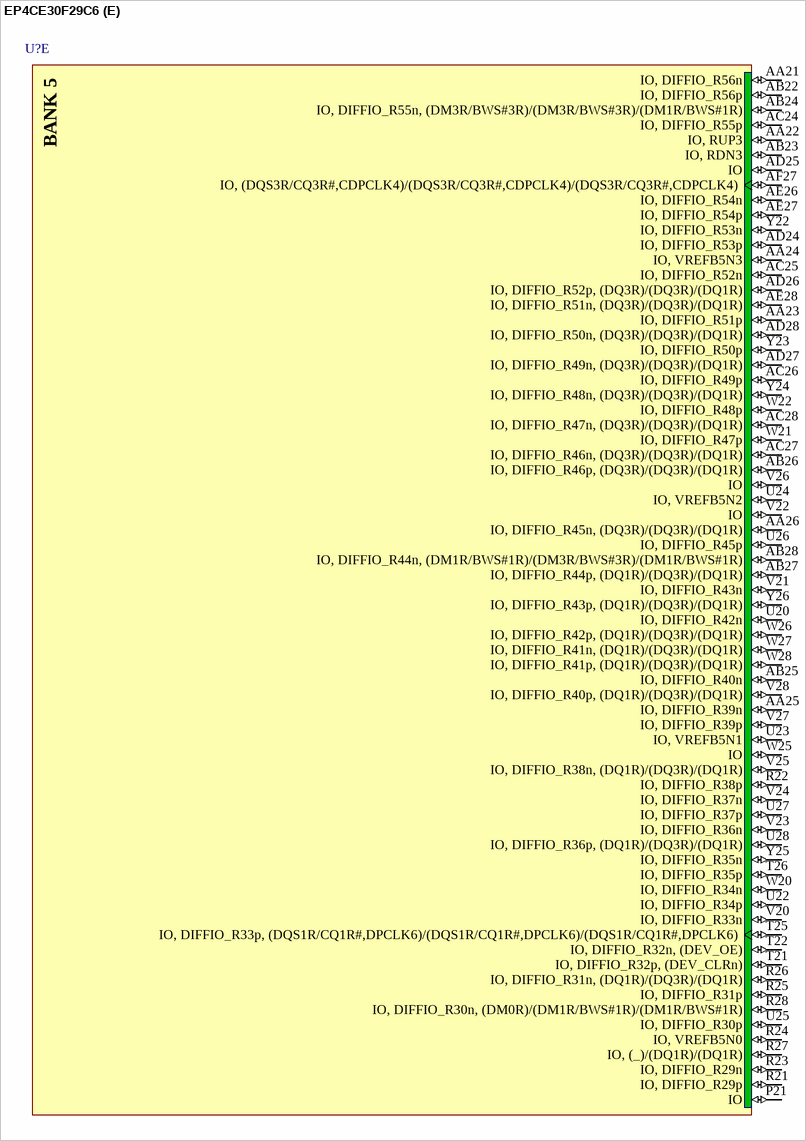
[diagram p116: symbol EP4CE30F29C6]

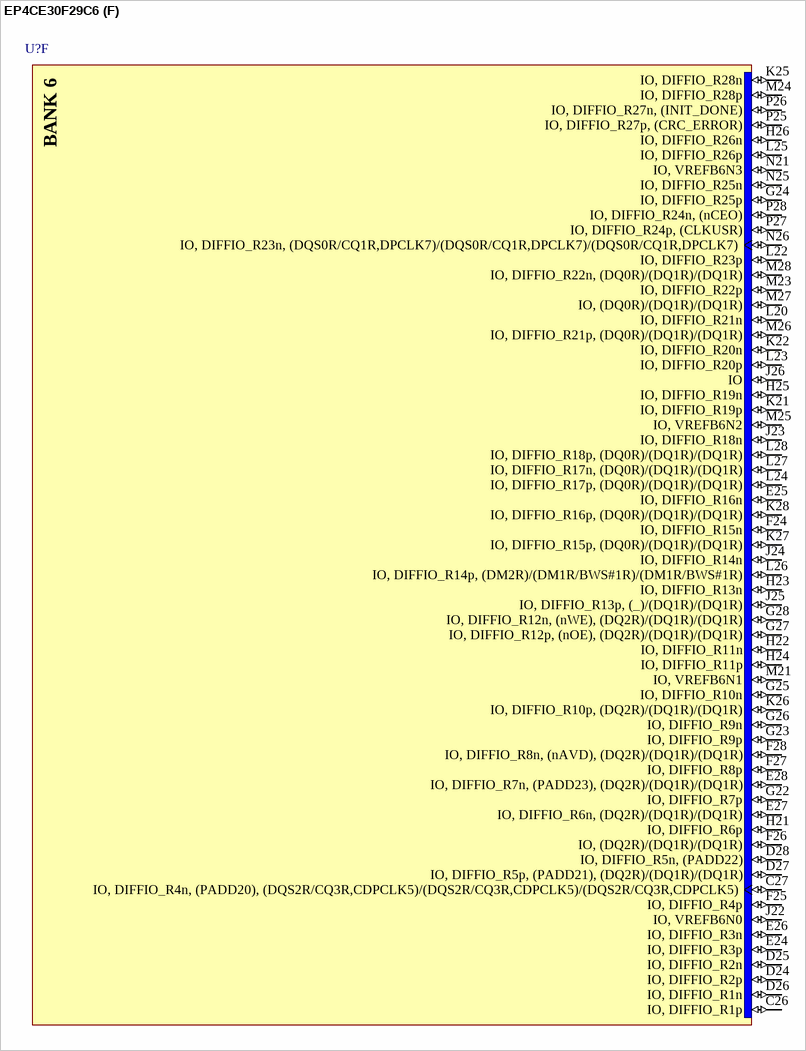
[diagram p117: symbol EP4CE30F29C6]

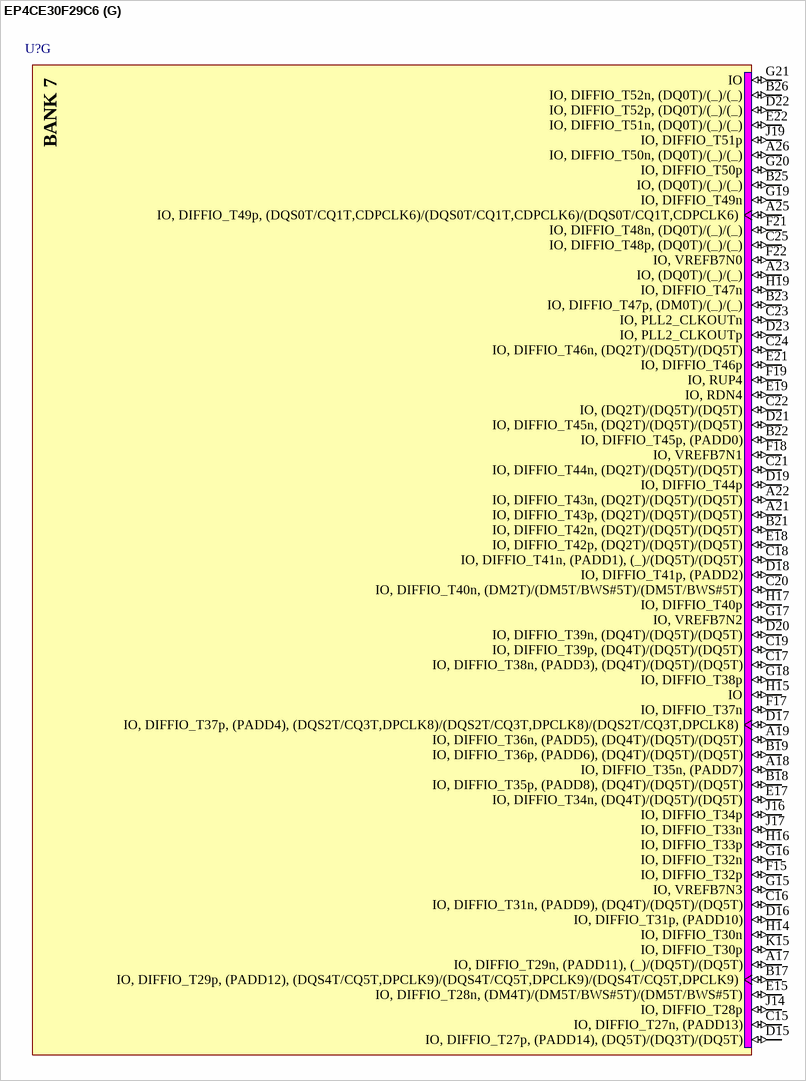
[diagram p118: symbol EP4CE30F29C6]

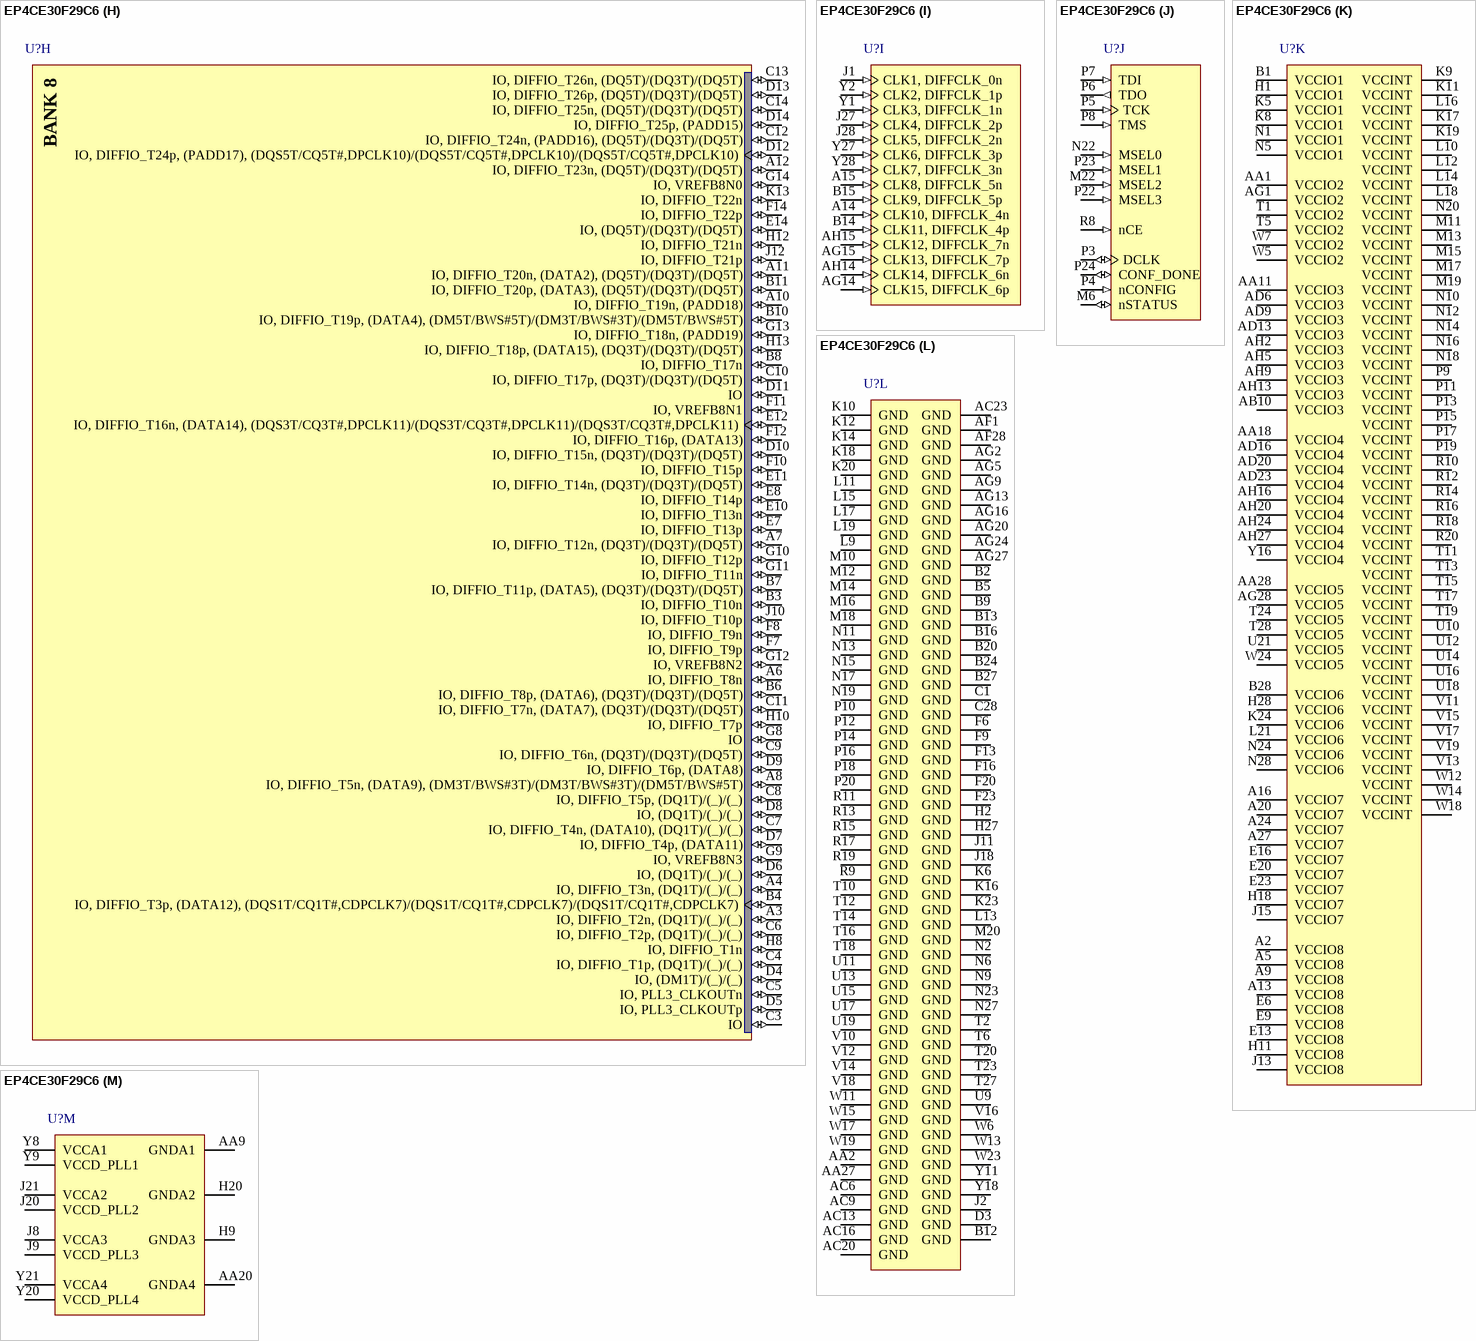
[diagram p119: symbol EP4CE30F29C6]

## EP4CE30F29C6
designator U?
Cyclone IV Family FPGA, 2V Core, 532 I/O Pins, 4 PLLs, 780-Pin FBGA, Speed Grade 6, Commercial Grade; Published: 3-May-2010; DatasheetVersion: ver1.2, Mar-2010; PackageVersion: ver16.0, Dec-2009; PackageReference: FBGA780; Publisher: Altium Limited; PackageDescription: 780-Ball FineLine Ball Grid Array (FBGA780) - Option 1 - Flip Chip; Supplier 1: Digi-Key; Supplier Part Number 1: EP4CE30F29C6-ND; Code_JEDEC: MS-034-AAM-1; ComponentLink1Description: Manufacturer Link; ComponentLink1URL: http://www.altera.com/; ComponentLink2Description: Handbook; ComponentLink2URL: http://www.altera.com/literature/hb/cyclone-iv/cyclone4-handbook.pdf; ComponentLink3Description: Pinout Specification; ComponentLink3URL: http://www.altera.com/literature/lit-dp.jsp?category=cyc%204&showspreadsheet=y; ComponentLink4Description: Packaging Specification; ComponentLink4URL: http://www.altera.com/literature/ds/dspkg.pdf
footprint FBGA780 (BGA, 780-Leads, Body 29x29mm, Pitch 1mm)
signal-integrity model EP4CE_F780 (Cyclone IV)
part A pins: C2 IO, DIFFIO_L1n, (DQ2L)/(DQ1L)/(DQ1L) (io), D1 IO, DIFFIO_L2n, (DQ2L)/(DQ1L)/(DQ1L) (io), D2 IO, DIFFIO_L2p, (DQ2L)/(DQ1L)/(DQ1L) (io), E1 IO, DIFFIO_L11p, (_)/(DQ1L)/(DQ1L) (io), E2 IO, DIFFIO_L10p, (FLASH_nCE,nCSO) (io), E3 IO, DIFFIO_L7p, (DQS2L/CQ3L,CDPCLK0)/(DQS2L/CQ3L,CDPCLK0)/(DQS2L/CQ3L,CDPCLK0) (io), E4 IO, DIFFIO_L3n (io), E5 IO, DIFFIO_L3p (io), F1 IO, DIFFIO_L12n, (DQ0L)/(DQ1L)/(DQ1L) (io), F2 IO, DIFFIO_L12p, (DM2L)/(DM1L/BWS#1L)/(DM1L/BWS#1L) (io), F3 IO, DIFFIO_L7n, (DQ2L)/(DQ1L)/(DQ1L) (io), F4 IO, DIFFIO_L8n, (DATA1,ASDO) (io), F5 IO, DIFFIO_L8p, (DQ2L)/(DQ1L)/(DQ1L) (io), G1 IO, DIFFIO_L20n (io), G2 IO, DIFFIO_L20p, (DQ0L)/(DQ1L)/(DQ1L) (io), G3 IO, DIFFIO_L9n (io), G4 IO, DIFFIO_L9p, (DQ2L)/(DQ1L)/(DQ1L) (io), G5 IO, DIFFIO_L4n, (DQ2L)/(DQ1L)/(DQ1L) (io), G6 IO, DIFFIO_L4p, (nRESET), (DQ2L)/(DQ1L)/(DQ1L) (io), G7 IO, DIFFIO_L6n (io), H3 IO, DIFFIO_L5n (io), H4 IO, DIFFIO_L5p (io), H5 IO, DIFFIO_L18n (io), H6 IO, DIFFIO_L18p (io), H7 IO, VREFB1N0 (io), J3 IO, DIFFIO_L19n, (DQ0L)/(DQ1L)/(DQ1L) (io), J4 IO, DIFFIO_L19p (io), J5 IO, DIFFIO_L6p (io), J6 IO, DIFFIO_L10n (io), J7 IO, DIFFIO_L11n (io), K1 IO, DIFFIO_L21n, (DQ0L)/(DQ1L)/(DQ1L) (io), K2 IO, (DQS0L/CQ1L,DPCLK0)/(DQS0L/CQ1L,DPCLK0)/(DQS0L/CQ1L,DPCLK0) (io), K3 IO, DIFFIO_L13n (io), K4 IO, DIFFIO_L13p (io), K7 IO, DIFFIO_L14p (io), L1 IO, DIFFIO_L23n, (DQ0L)/(DQ1L)/(DQ1L) (io), L2 IO, DIFFIO_L23p (io), L3 IO, DIFFIO_L17n (io), L4 IO, DIFFIO_L17p (io), L5 IO, VREFB1N1 (io), L6 IO, DIFFIO_L14n (io), L7 IO, DIFFIO_L15n (io), L8 IO, DIFFIO_L15p (io), M1 IO, DIFFIO_L24n, (DQ0L)/(DQ1L)/(DQ1L) (io), M2 IO, DIFFIO_L24p (io), M3 IO, DIFFIO_L21p (io), M4 IO (io), M5 IO, VREFB1N3 (io), M7 IO, DIFFIO_L16n (io), M8 IO, DIFFIO_L16p (io), M9 IO (io), N3 IO, DIFFIO_L22n (io), N4 IO, DIFFIO_L22p (io), N7 IO, (DATA0) (io), N8 IO, VREFB1N2 (io), P1 IO, DIFFIO_L25n, (DQ0L)/(DQ1L)/(DQ1L) (io), P2 IO, DIFFIO_L25p (io)
part B pins: AA3 IO (io), AA4 IO, DIFFIO_L47n, (DQ3L)/(DQ3L)/(DQ1L) (io), AA5 IO, DIFFIO_L50p (io), AA6 IO, DIFFIO_L40n (io), AA7 IO, DIFFIO_L40p (io), AA8 IO, DIFFIO_L41p (io), AB1 IO, DIFFIO_L34n (io), AB2 IO, DIFFIO_L34p, (DQS1L/CQ1L#,DPCLK1)/(DQS1L/CQ1L#,DPCLK1)/(DQS1L/CQ1L#,DPCLK1) (io), AB3 IO, DIFFIO_L47p, (DQ3L)/(DQ3L)/(DQ1L) (io), AB4 IO, VREFB2N3 (io), AB5 IO, DIFFIO_L51n (io), AB6 IO, DIFFIO_L51p (io), AB7 IO, DIFFIO_L48p (io), AB8 IO (io), AC1 IO, DIFFIO_L44n, (DQ3L)/(DQ3L)/(DQ1L) (io), AC2 IO, DIFFIO_L43n, (DQ3L)/(DQ3L)/(DQ1L) (io), AC3 IO, DIFFIO_L45n, (DQ3L)/(DQ3L)/(DQ1L) (io), AC4 IO, DIFFIO_L52p (io), AC5 IO, DIFFIO_L53p (io), AC7 IO, DIFFIO_L48n (io), AD1 IO, DIFFIO_L46n (io), AD2 IO, DIFFIO_L46p, (DQ3L)/(DQ3L)/(DQ1L) (io), AD3 IO, DIFFIO_L52n (io), AD4 IO (io), AD5 IO, DIFFIO_L53n (io), AE1 IO, DIFFIO_L49p (io), AE2 IO, DIFFIO_L49n, (DQ3L)/(DQ3L)/(DQ1L) (io), AE3 IO, (DQS3L/CQ3L#,CDPCLK1)/(DQS3L/CQ3L#,CDPCLK1)/(DQS3L/CQ3L#,CDPCLK1) (io), AE4 IO, DIFFIO_L54p (io), AF2 IO, DIFFIO_L50n, (DM3L/BWS#3L)/(DM3L/BWS#3L)/(DM1L/BWS#1L) (io), AF3 IO, DIFFIO_L54n (io), R1 IO, DIFFIO_L26n, (_)/(DQ1L)/(DQ1L) (io), R2 IO, DIFFIO_L26p, (DQ0L)/(DQ1L)/(DQ1L) (io), R3 IO, DIFFIO_L28p, (DQ1L)/(DQ3L)/(DQ1L) (io), R4 IO, DIFFIO_L29p, (DQ1L)/(DQ3L)/(DQ1L) (io), R5 IO, DIFFIO_L31n, (DQ1L)/(DQ3L)/(DQ1L) (io), R6 IO, DIFFIO_L28n (io), R7 IO, DIFFIO_L29n (io), T3 IO, DIFFIO_L30n (io), T4 IO, DIFFIO_L30p, (DQ1L)/(DQ3L)/(DQ1L) (io), T7 IO, VREFB2N1 (io), T8 IO, VREFB2N0 (io), T9 IO, DIFFIO_L43p (io), U1 IO, DIFFIO_L32p, (DQ1L)/(DQ3L)/(DQ1L) (io), U2 IO, DIFFIO_L27n (io), U3 IO, DIFFIO_L27p, (DM0L)/(DM1L/BWS#1L)/(DM1L/BWS#1L) (io), U4 IO, DIFFIO_L31p (io), U5 IO, DIFFIO_L37n (io), U6 IO, DIFFIO_L39n, (DQ3L)/(DQ3L)/(DQ1L) (io), U7 IO, RUP1 (io), U8 IO, RDN1 (io), V1 IO, (DQ1L)/(DQ3L)/(DQ1L) (io), V2 IO, DIFFIO_L33n, (DQ1L)/(DQ3L)/(DQ1L) (io), V3 IO, DIFFIO_L33p (io), V4 IO, DIFFIO_L32n, (DQ1L)/(DQ3L)/(DQ1L) (io), V5 IO, DIFFIO_L39p (io), V6 IO, DIFFIO_L37p (io), V7 IO, DIFFIO_L45p (io), V8 IO, VREFB2N2 (io), V9 IO (io), W1 IO, DIFFIO_L35n, (DM1L/BWS#1L)/(DM3L/BWS#3L)/(DM1L/BWS#1L) (io), W2 IO, DIFFIO_L35p, (DQ1L)/(DQ3L)/(DQ1L) (io), W3 IO, DIFFIO_L36p (io), W4 IO, DIFFIO_L36n (io), W8 IO, DIFFIO_L44p (io), W9 IO (io), Y3 IO, DIFFIO_L42n (io), Y4 IO, DIFFIO_L42p, (DQ3L)/(DQ3L)/(DQ1L) (io), Y5 IO, DIFFIO_L38p (io), Y6 IO, DIFFIO_L38n (io), Y7 IO, DIFFIO_L41n (io)
part C pins: AA10 IO, DIFFIO_B14n, (DQ3B)/(DQ3B)/(DQ5B) (io), AA12 IO, VREFB3N2 (io), AA13 IO, DIFFIO_B11n (io), AA14 IO, VREFB3N0 (io), AB9 IO, DIFFIO_B12p, (DM3B/BWS#3B)/(DM3B/BWS#3B)/(DM5B/BWS#5B) (io), AB11 IO, VREFB3N1 (io), AB12 IO, DIFFIO_B3n (io), AB13 IO, DIFFIO_B10n (io), AB14 IO, DIFFIO_B24n (io), AC8 IO, DIFFIO_B14p, (DQ3B)/(DQ3B)/(DQ5B) (io), AC10 IO, DIFFIO_B9p (io), AC11 IO, DIFFIO_B1p (io), AC12 IO, DIFFIO_B8p (io), AC14 IO, DIFFIO_B25n (io), AD7 IO, DIFFIO_B6p, (DQS1B/CQ1B#,CDPCLK2)/(DQS1B/CQ1B#,CDPCLK2)/(DQS1B/CQ1B#,CDPCLK2) (io), AD8 IO, DIFFIO_B9n, (DQ1B)/(_)/(_) (io), AD10 IO, DIFFIO_B12n, (DQ3B)/(DQ3B)/(DQ5B) (io), AD11 IO, DIFFIO_B1n (io), AD12 IO, DIFFIO_B2p (io), AD14 IO, DIFFIO_B26n (io), AE5 IO, PLL1_CLKOUTp (io), AE6 IO, DIFFIO_B2n, (DM1B)/(_)/(_) (io), AE7 IO, DIFFIO_B5p (io), AE8 IO, DIFFIO_B5n (io), AE9 IO, DIFFIO_B20p, (DQ5B)/(DQ3B)/(DQ5B) (io), AE10 IO, DIFFIO_B16p, (DQS3B/CQ3B#,DPCLK2)/(DQS3B/CQ3B#,DPCLK2)/(DQS3B/CQ3B#,DPCLK2) (io), AE11 IO, DIFFIO_B23p, (DQ5B)/(DQ3B)/(DQ5B) (io), AE12 IO, DIFFIO_B22n, (DQ5B)/(DQ3B)/(DQ5B) (io), AE13 IO, DIFFIO_B25p, (DQ5B)/(DQ3B)/(DQ5B) (io), AE14 IO, DIFFIO_B27p (io), AF4 IO, DIFFIO_B3p, (DQ1B)/(_)/(_) (io), AF5 IO, PLL1_CLKOUTn (io), AF6 IO, (DQ1B)/(_)/(_) (io), AF7 IO, DIFFIO_B17p, (DQ3B)/(DQ3B)/(DQ5B) (io), AF8 IO, DIFFIO_B19p, (DM5B/BWS#5B)/(DM3B/BWS#3B)/(DM5B/BWS#5B) (io), AF9 IO, DIFFIO_B18p, (DQ3B)/(DQ3B)/(DQ5B) (io), AF10 IO, DIFFIO_B21p, (DQ5B)/(DQ3B)/(DQ5B) (io), AF11 IO, DIFFIO_B21n, (DQS5B/CQ5B#,DPCLK3)/(DQS5B/CQ5B#,DPCLK3)/(DQS5B/CQ5B#,DPCLK3) (io), AF12 IO, DIFFIO_B19n (io), AF13 IO, DIFFIO_B20n (io), AF14 IO, DIFFIO_B27n (io), AG3 IO, DIFFIO_B4n, (DQ1B)/(_)/(_) (io), AG4 IO, DIFFIO_B4p (io), AG6 IO, DIFFIO_B10p, (DQ1B)/(_)/(_) (io), AG7 IO, DIFFIO_B13p, (DQ3B)/(DQ3B)/(DQ5B) (io), AG8 IO, DIFFIO_B15p, (DQ3B)/(DQ3B)/(DQ5B) (io), AG10 IO, DIFFIO_B22p, (DQ5B)/(DQ3B)/(DQ5B) (io), AG11 IO, DIFFIO_B23n, (DQ5B)/(DQ3B)/(DQ5B) (io), AG12 IO, DIFFIO_B26p, (DQ5B)/(DQ3B)/(DQ5B) (io), AH3 IO, DIFFIO_B7p, (DQ1B)/(_)/(_) (io), AH4 IO, DIFFIO_B8n, (DQ1B)/(_)/(_) (io), AH6 IO, DIFFIO_B11p, (DQ1B)/(_)/(_) (io), AH7 IO, (DQ3B)/(DQ3B)/(DQ5B) (io), AH8 IO, DIFFIO_B16n, (DQ3B)/(DQ3B)/(DQ5B) (io), AH10 IO, DIFFIO_B17n (io), AH11 IO, DIFFIO_B24p, (DQ5B)/(DQ3B)/(DQ5B) (io), AH12 IO, DIFFIO_B18n (io), W10 IO, DIFFIO_B7n (io), Y10 IO, VREFB3N3 (io), Y12 IO, DIFFIO_B6n (io), Y13 IO, DIFFIO_B13n (io), Y14 IO (io), Y15 IO, DIFFIO_B15n (io)
part D pins: AA15 IO, VREFB4N3 (io), AA16 IO (io), AA17 IO, RUP2 (io), AA19 IO, DIFFIO_B44n (io), AB15 IO, DIFFIO_B28p (io), AB16 IO, DIFFIO_B33p, (DQ4B)/(DQ5B)/(DQ5B) (io), AB17 IO, RDN2 (io), AB18 IO, DIFFIO_B44p (io), AB19 IO, DIFFIO_B46n (io), AB20 IO, VREFB4N0 (io), AB21 IO, DIFFIO_B53p (io), AC15 IO, DIFFIO_B28n, (DM4B)/(DM5B/BWS#5B)/(DM5B/BWS#5B) (io), AC17 IO, DIFFIO_B37n (io), AC18 IO, VREFB4N1 (io), AC19 IO, DIFFIO_B46p (io), AC21 IO, DIFFIO_B48p (io), AC22 IO, DIFFIO_B53n (io), AD15 IO, DIFFIO_B29p (io), AD17 IO, DIFFIO_B36p, (DQ2B)/(DQ5B)/(DQ5B) (io), AD18 IO, (DQ0B)/(_)/(_) (io), AD19 IO, DIFFIO_B45p (io), AD21 IO (io), AD22 IO, DIFFIO_B52p (io), AE15 IO, DIFFIO_B29n, (_)/(DQ5B)/(DQ5B) (io), AE16 IO, DIFFIO_B33n (io), AE17 IO, DIFFIO_B34p, (DQ4B)/(DQ5B)/(DQ5B) (io), AE18 IO, (DQS2B/CQ3B,DPCLK5)/(DQS2B/CQ3B,DPCLK5)/(DQS2B/CQ3B,DPCLK5) (io), AE19 IO, DIFFIO_B40n, (DQ2B)/(DQ5B)/(DQ5B) (io), AE20 IO, DIFFIO_B45n (io), AE21 IO, DIFFIO_B43n, (DQ0B)/(_)/(_) (io), AE22 IO, DIFFIO_B52n (io), AE23 IO, PLL4_CLKOUTp (io), AE24 IO, DIFFIO_B51p, (DQ0B)/(_)/(_) (io), AE25 IO, DIFFIO_B47n, (DQ0B)/(_)/(_) (io), AF15 IO, DIFFIO_B30p, (DQ4B)/(DQ5B)/(DQ5B) (io), AF16 IO, DIFFIO_B32p, (DQ4B)/(DQ5B)/(DQ5B) (io), AF17 IO, DIFFIO_B32n, (DQS4B/CQ5B,DPCLK4)/(DQS4B/CQ5B,DPCLK4)/(DQS4B/CQ5B,DPCLK4) (io), AF18 IO, DIFFIO_B36n (io), AF19 IO, DIFFIO_B41n (io), AF20 IO, DIFFIO_B42n, (DQ0B)/(_)/(_) (io), AF21 IO, DIFFIO_B47p (io), AF22 IO, DIFFIO_B50n, (DQ0B)/(_)/(_) (io), AF23 IO, PLL4_CLKOUTn (io), AF24 IO, DIFFIO_B41p, (DQ2B)/(DQ5B)/(DQ5B) (io), AF25 IO, DIFFIO_B42p, (DM0B)/(DQ5B)/(DQ5B) (io), AF26 IO, DIFFIO_B48n, (DQS0B/CQ1B,CDPCLK3)/(DQS0B/CQ1B,CDPCLK3)/(DQS0B/CQ1B,CDPCLK3) (io), AG17 IO, DIFFIO_B30n, (DQ4B)/(DQ5B)/(DQ5B) (io), AG18 IO, DIFFIO_B34n, (DQ4B)/(DQ5B)/(DQ5B) (io), AG19 IO, DIFFIO_B39n (io), AG21 IO, DIFFIO_B37p, (DQ2B)/(DQ5B)/(DQ5B) (io), AG22 IO, DIFFIO_B38n, (DQ2B)/(DQ5B)/(DQ5B) (io), AG23 IO, DIFFIO_B50p (io), AG25 IO, DIFFIO_B49p (io), AG26 IO, DIFFIO_B51n, (DQ0B)/(_)/(_) (io), AH17 IO, DIFFIO_B31p, (DQ4B)/(DQ5B)/(DQ5B) (io), AH18 IO, DIFFIO_B35p, (DQ4B)/(DQ5B)/(DQ5B) (io), AH19 IO, DIFFIO_B35n, (DM2B)/(DM5B/BWS#5B)/(DM5B/BWS#5B) (io), AH21 IO, DIFFIO_B38p, (DQ2B)/(DQ5B)/(DQ5B) (io), AH22 IO, DIFFIO_B39p, (DQ2B)/(DQ5B)/(DQ5B) (io), AH23 IO, DIFFIO_B40p, (DQ2B)/(DQ5B)/(DQ5B) (io), AH25 IO, DIFFIO_B49n, (DQ0B)/(_)/(_) (io), AH26 IO (io), W16 IO, DIFFIO_B31n (io), Y17 IO, VREFB4N2 (io), Y19 IO, DIFFIO_B43p (io)
part E pins: AA21 IO, DIFFIO_R56n (io), AA22 IO, RUP3 (io), AA23 IO, DIFFIO_R51p (io), AA24 IO, VREFB5N3 (io), AA25 IO, DIFFIO_R39n (io), AA26 IO, DIFFIO_R45n, (DQ3R)/(DQ3R)/(DQ1R) (io), AB22 IO, DIFFIO_R56p (io), AB23 IO, RDN3 (io), AB24 IO, DIFFIO_R55n, (DM3R/BWS#3R)/(DM3R/BWS#3R)/(DM1R/BWS#1R) (io), AB25 IO, DIFFIO_R40n (io), AB26 IO, DIFFIO_R46p, (DQ3R)/(DQ3R)/(DQ1R) (io), AB27 IO, DIFFIO_R44p, (DQ1R)/(DQ3R)/(DQ1R) (io), AB28 IO, DIFFIO_R44n, (DM1R/BWS#1R)/(DM3R/BWS#3R)/(DM1R/BWS#1R) (io), AC24 IO, DIFFIO_R55p (io), AC25 IO, DIFFIO_R52n (io), AC26 IO, DIFFIO_R49p (io), AC27 IO, DIFFIO_R46n, (DQ3R)/(DQ3R)/(DQ1R) (io), AC28 IO, DIFFIO_R47n, (DQ3R)/(DQ3R)/(DQ1R) (io), AD24 IO, DIFFIO_R53p (io), AD25 IO (io), AD26 IO, DIFFIO_R52p, (DQ3R)/(DQ3R)/(DQ1R) (io), AD27 IO, DIFFIO_R49n, (DQ3R)/(DQ3R)/(DQ1R) (io), AD28 IO, DIFFIO_R50n, (DQ3R)/(DQ3R)/(DQ1R) (io), AE26 IO, DIFFIO_R54n (io), AE27 IO, DIFFIO_R54p (io), AE28 IO, DIFFIO_R51n, (DQ3R)/(DQ3R)/(DQ1R) (io), AF27 IO, (DQS3R/CQ3R#,CDPCLK4)/(DQS3R/CQ3R#,CDPCLK4)/(DQS3R/CQ3R#,CDPCLK4) (io), P21 IO (io), R21 IO, DIFFIO_R29p (io), R22 IO, DIFFIO_R38p (io), R23 IO, DIFFIO_R29n (io), R24 IO, VREFB5N0 (io), R25 IO, DIFFIO_R31p (io), R26 IO, DIFFIO_R31n, (DQ1R)/(DQ3R)/(DQ1R) (io), R27 IO, (_)/(DQ1R)/(DQ1R) (io), R28 IO, DIFFIO_R30n, (DM0R)/(DM1R/BWS#1R)/(DM1R/BWS#1R) (io), T21 IO, DIFFIO_R32p, (DEV_CLRn) (io), T22 IO, DIFFIO_R32n, (DEV_OE) (io), T25 IO, DIFFIO_R33p, (DQS1R/CQ1R#,DPCLK6)/(DQS1R/CQ1R#,DPCLK6)/(DQS1R/CQ1R#,DPCLK6) (io), T26 IO, DIFFIO_R35p (io), U20 IO, DIFFIO_R42n (io), U22 IO, DIFFIO_R34p (io), U23 IO, VREFB5N1 (io), U24 IO, VREFB5N2 (io), U25 IO, DIFFIO_R30p (io), U26 IO, DIFFIO_R45p (io), U27 IO, DIFFIO_R37p (io), U28 IO, DIFFIO_R36p, (DQ1R)/(DQ3R)/(DQ1R) (io), V20 IO, DIFFIO_R33n (io), V21 IO, DIFFIO_R43n (io), V22 IO (io), V23 IO, DIFFIO_R36n (io), V24 IO, DIFFIO_R37n (io), V25 IO, DIFFIO_R38n, (DQ1R)/(DQ3R)/(DQ1R) (io), V26 IO (io), V27 IO, DIFFIO_R39p (io), V28 IO, DIFFIO_R40p, (DQ1R)/(DQ3R)/(DQ1R) (io), W20 IO, DIFFIO_R34n (io), W21 IO, DIFFIO_R47p (io), W22 IO, DIFFIO_R48p (io), W25 IO (io), W26 IO, DIFFIO_R42p, (DQ1R)/(DQ3R)/(DQ1R) (io), W27 IO, DIFFIO_R41n, (DQ1R)/(DQ3R)/(DQ1R) (io), W28 IO, DIFFIO_R41p, (DQ1R)/(DQ3R)/(DQ1R) (io), Y22 IO, DIFFIO_R53n (io), Y23 IO, DIFFIO_R50p (io), Y24 IO, DIFFIO_R48n, (DQ3R)/(DQ3R)/(DQ1R) (io), Y25 IO, DIFFIO_R35n (io), Y26 IO, DIFFIO_R43p, (DQ1R)/(DQ3R)/(DQ1R) (io)
part F pins: C26 IO, DIFFIO_R1p (io), C27 IO, DIFFIO_R4n, (PADD20), (DQS2R/CQ3R,CDPCLK5)/(DQS2R/CQ3R,CDPCLK5)/(DQS2R/CQ3R,CDPCLK5) (io), D24 IO, DIFFIO_R2p (io), D25 IO, DIFFIO_R2n (io), D26 IO, DIFFIO_R1n (io), D27 IO, DIFFIO_R5p, (PADD21), (DQ2R)/(DQ1R)/(DQ1R) (io), D28 IO, DIFFIO_R5n, (PADD22) (io), E24 IO, DIFFIO_R3p (io), E25 IO, DIFFIO_R16n (io), E26 IO, DIFFIO_R3n (io), E27 IO, DIFFIO_R6n, (DQ2R)/(DQ1R)/(DQ1R) (io), E28 IO, DIFFIO_R7n, (PADD23), (DQ2R)/(DQ1R)/(DQ1R) (io), F24 IO, DIFFIO_R15n (io), F25 IO, DIFFIO_R4p (io), F26 IO, (DQ2R)/(DQ1R)/(DQ1R) (io), F27 IO, DIFFIO_R8p (io), F28 IO, DIFFIO_R8n, (nAVD), (DQ2R)/(DQ1R)/(DQ1R) (io), G22 IO, DIFFIO_R7p (io), G23 IO, DIFFIO_R9p (io), G24 IO, DIFFIO_R25p (io), G25 IO, DIFFIO_R10n (io), G26 IO, DIFFIO_R9n (io), G27 IO, DIFFIO_R12p, (nOE), (DQ2R)/(DQ1R)/(DQ1R) (io), G28 IO, DIFFIO_R12n, (nWE), (DQ2R)/(DQ1R)/(DQ1R) (io), H21 IO, DIFFIO_R6p (io), H22 IO, DIFFIO_R11n (io), H23 IO, DIFFIO_R13n (io), H24 IO, DIFFIO_R11p (io), H25 IO, DIFFIO_R19n (io), H26 IO, DIFFIO_R26n (io), J22 IO, VREFB6N0 (io), J23 IO, DIFFIO_R18n (io), J24 IO, DIFFIO_R14n (io), J25 IO, DIFFIO_R13p, (_)/(DQ1R)/(DQ1R) (io), J26 IO (io), K21 IO, DIFFIO_R19p (io), K22 IO, DIFFIO_R20n (io), K25 IO, DIFFIO_R28n (io), K26 IO, DIFFIO_R10p, (DQ2R)/(DQ1R)/(DQ1R) (io), K27 IO, DIFFIO_R15p, (DQ0R)/(DQ1R)/(DQ1R) (io), K28 IO, DIFFIO_R16p, (DQ0R)/(DQ1R)/(DQ1R) (io), L20 IO, DIFFIO_R21n (io), L22 IO, DIFFIO_R23p (io), L23 IO, DIFFIO_R20p (io), L24 IO, DIFFIO_R17p, (DQ0R)/(DQ1R)/(DQ1R) (io), L25 IO, DIFFIO_R26p (io), L26 IO, DIFFIO_R14p, (DM2R)/(DM1R/BWS#1R)/(DM1R/BWS#1R) (io), L27 IO, DIFFIO_R17n, (DQ0R)/(DQ1R)/(DQ1R) (io), L28 IO, DIFFIO_R18p, (DQ0R)/(DQ1R)/(DQ1R) (io), M21 IO, VREFB6N1 (io), M23 IO, DIFFIO_R22p (io), M24 IO, DIFFIO_R28p (io), M25 IO, VREFB6N2 (io), M26 IO, DIFFIO_R21p, (DQ0R)/(DQ1R)/(DQ1R) (io), M27 IO, (DQ0R)/(DQ1R)/(DQ1R) (io), M28 IO, DIFFIO_R22n, (DQ0R)/(DQ1R)/(DQ1R) (io), N21 IO, VREFB6N3 (io), N25 IO, DIFFIO_R25n (io), N26 IO, DIFFIO_R23n, (DQS0R/CQ1R,DPCLK7)/(DQS0R/CQ1R,DPCLK7)/(DQS0R/CQ1R,DPCLK7) (io), P25 IO, DIFFIO_R27p, (CRC_ERROR) (io), P26 IO, DIFFIO_R27n, (INIT_DONE) (io), P27 IO, DIFFIO_R24p, (CLKUSR) (io), P28 IO, DIFFIO_R24n, (nCEO) (io)
part G pins: A17 IO, DIFFIO_T29n, (PADD11), (_)/(DQ5T)/(DQ5T) (io), A18 IO, DIFFIO_T35n, (PADD7) (io), A19 IO, DIFFIO_T36n, (PADD5), (DQ4T)/(DQ5T)/(DQ5T) (io), A21 IO, DIFFIO_T43p, (DQ2T)/(DQ5T)/(DQ5T) (io), A22 IO, DIFFIO_T43n, (DQ2T)/(DQ5T)/(DQ5T) (io), A23 IO, (DQ0T)/(_)/(_) (io), A25 IO, DIFFIO_T49p, (DQS0T/CQ1T,CDPCLK6)/(DQS0T/CQ1T,CDPCLK6)/(DQS0T/CQ1T,CDPCLK6) (io), A26 IO, DIFFIO_T50n, (DQ0T)/(_)/(_) (io), B17 IO, DIFFIO_T29p, (PADD12), (DQS4T/CQ5T,DPCLK9)/(DQS4T/CQ5T,DPCLK9)/(DQS4T/CQ5T,DPCLK9) (io), B18 IO, DIFFIO_T35p, (PADD8), (DQ4T)/(DQ5T)/(DQ5T) (io), B19 IO, DIFFIO_T36p, (PADD6), (DQ4T)/(DQ5T)/(DQ5T) (io), B21 IO, DIFFIO_T42n, (DQ2T)/(DQ5T)/(DQ5T) (io), B22 IO, DIFFIO_T45p, (PADD0) (io), B23 IO, DIFFIO_T47p, (DM0T)/(_)/(_) (io), B25 IO, (DQ0T)/(_)/(_) (io), B26 IO, DIFFIO_T52n, (DQ0T)/(_)/(_) (io), C15 IO, DIFFIO_T27n, (PADD13) (io), C16 IO, DIFFIO_T31n, (PADD9), (DQ4T)/(DQ5T)/(DQ5T) (io), C17 IO, DIFFIO_T38n, (PADD3), (DQ4T)/(DQ5T)/(DQ5T) (io), C18 IO, DIFFIO_T41n, (PADD1), (_)/(DQ5T)/(DQ5T) (io), C19 IO, DIFFIO_T39p, (DQ4T)/(DQ5T)/(DQ5T) (io), C20 IO, DIFFIO_T40n, (DM2T)/(DM5T/BWS#5T)/(DM5T/BWS#5T) (io), C21 IO, DIFFIO_T44n, (DQ2T)/(DQ5T)/(DQ5T) (io), C22 IO, (DQ2T)/(DQ5T)/(DQ5T) (io), C23 IO, PLL2_CLKOUTn (io), C24 IO, DIFFIO_T46n, (DQ2T)/(DQ5T)/(DQ5T) (io), C25 IO, DIFFIO_T48p, (DQ0T)/(_)/(_) (io), D15 IO, DIFFIO_T27p, (PADD14), (DQ5T)/(DQ3T)/(DQ5T) (io), D16 IO, DIFFIO_T31p, (PADD10) (io), D17 IO, DIFFIO_T37p, (PADD4), (DQS2T/CQ3T,DPCLK8)/(DQS2T/CQ3T,DPCLK8)/(DQS2T/CQ3T,DPCLK8) (io), D18 IO, DIFFIO_T41p, (PADD2) (io), D19 IO, DIFFIO_T44p (io), D20 IO, DIFFIO_T39n, (DQ4T)/(DQ5T)/(DQ5T) (io), D21 IO, DIFFIO_T45n, (DQ2T)/(DQ5T)/(DQ5T) (io), D22 IO, DIFFIO_T52p, (DQ0T)/(_)/(_) (io), D23 IO, PLL2_CLKOUTp (io), E15 IO, DIFFIO_T28n, (DM4T)/(DM5T/BWS#5T)/(DM5T/BWS#5T) (io), E17 IO, DIFFIO_T34n, (DQ4T)/(DQ5T)/(DQ5T) (io), E18 IO, DIFFIO_T42p, (DQ2T)/(DQ5T)/(DQ5T) (io), E19 IO, RDN4 (io), E21 IO, DIFFIO_T46p (io), E22 IO, DIFFIO_T51n, (DQ0T)/(_)/(_) (io), F15 IO, DIFFIO_T32p (io), F17 IO, DIFFIO_T37n (io), F18 IO, VREFB7N1 (io), F19 IO, RUP4 (io), F21 IO, DIFFIO_T48n, (DQ0T)/(_)/(_) (io), F22 IO, VREFB7N0 (io), G15 IO, VREFB7N3 (io), G16 IO, DIFFIO_T32n (io), G17 IO, VREFB7N2 (io), G18 IO, DIFFIO_T38p (io), G19 IO, DIFFIO_T49n (io), G20 IO, DIFFIO_T50p (io), G21 IO (io), H14 IO, DIFFIO_T30n (io), H15 IO (io), H16 IO, DIFFIO_T33p (io), H17 IO, DIFFIO_T40p (io), H19 IO, DIFFIO_T47n (io), J14 IO, DIFFIO_T28p (io), J16 IO, DIFFIO_T34p (io), J17 IO, DIFFIO_T33n (io), J19 IO, DIFFIO_T51p (io), K15 IO, DIFFIO_T30p (io)
part H pins: A3 IO, DIFFIO_T2n, (DQ1T)/(_)/(_) (io), A4 IO, DIFFIO_T3n, (DQ1T)/(_)/(_) (io), A6 IO, DIFFIO_T8n (io), A7 IO, DIFFIO_T12n, (DQ3T)/(DQ3T)/(DQ5T) (io), A8 IO, DIFFIO_T5n, (DATA9), (DM3T/BWS#3T)/(DM3T/BWS#3T)/(DM5T/BWS#5T) (io), A10 IO, DIFFIO_T19n, (PADD18) (io), A11 IO, DIFFIO_T20n, (DATA2), (DQ5T)/(DQ3T)/(DQ5T) (io), A12 IO, DIFFIO_T23n, (DQ5T)/(DQ3T)/(DQ5T) (io), B3 IO, DIFFIO_T10n (io), B4 IO, DIFFIO_T3p, (DATA12), (DQS1T/CQ1T#,CDPCLK7)/(DQS1T/CQ1T#,CDPCLK7)/(DQS1T/CQ1T#,CDPCLK7) (io), B6 IO, DIFFIO_T8p, (DATA6), (DQ3T)/(DQ3T)/(DQ5T) (io), B7 IO, DIFFIO_T11p, (DATA5), (DQ3T)/(DQ3T)/(DQ5T) (io), B8 IO, DIFFIO_T17n (io), B10 IO, DIFFIO_T19p, (DATA4), (DM5T/BWS#5T)/(DM3T/BWS#3T)/(DM5T/BWS#5T) (io), B11 IO, DIFFIO_T20p, (DATA3), (DQ5T)/(DQ3T)/(DQ5T) (io), C3 IO (io), C4 IO, DIFFIO_T1p, (DQ1T)/(_)/(_) (io), C5 IO, PLL3_CLKOUTn (io), C6 IO, DIFFIO_T2p, (DQ1T)/(_)/(_) (io), C7 IO, DIFFIO_T4n, (DATA10), (DQ1T)/(_)/(_) (io), C8 IO, DIFFIO_T5p, (DQ1T)/(_)/(_) (io), C9 IO, DIFFIO_T6n, (DQ3T)/(DQ3T)/(DQ5T) (io), C10 IO, DIFFIO_T17p, (DQ3T)/(DQ3T)/(DQ5T) (io), C11 IO, DIFFIO_T7n, (DATA7), (DQ3T)/(DQ3T)/(DQ5T) (io), C12 IO, DIFFIO_T24n, (PADD16), (DQ5T)/(DQ3T)/(DQ5T) (io), C13 IO, DIFFIO_T26n, (DQ5T)/(DQ3T)/(DQ5T) (io), C14 IO, DIFFIO_T25n, (DQ5T)/(DQ3T)/(DQ5T) (io), D4 IO, (DM1T)/(_)/(_) (io), D5 IO, PLL3_CLKOUTp (io), D6 IO, (DQ1T)/(_)/(_) (io), D7 IO, DIFFIO_T4p, (DATA11) (io), D8 IO, (DQ1T)/(_)/(_) (io), D9 IO, DIFFIO_T6p, (DATA8) (io), D10 IO, DIFFIO_T15n, (DQ3T)/(DQ3T)/(DQ5T) (io), D11 IO (io), D12 IO, DIFFIO_T24p, (PADD17), (DQS5T/CQ5T#,DPCLK10)/(DQS5T/CQ5T#,DPCLK10)/(DQS5T/CQ5T#,DPCLK10) (io), D13 IO, DIFFIO_T26p, (DQ5T)/(DQ3T)/(DQ5T) (io), D14 IO, DIFFIO_T25p, (PADD15) (io), E7 IO, DIFFIO_T13p (io), E8 IO, DIFFIO_T14p (io), E10 IO, DIFFIO_T13n (io), E11 IO, DIFFIO_T14n, (DQ3T)/(DQ3T)/(DQ5T) (io), E12 IO, DIFFIO_T16n, (DATA14), (DQS3T/CQ3T#,DPCLK11)/(DQS3T/CQ3T#,DPCLK11)/(DQS3T/CQ3T#,DPCLK11) (io), E14 IO, (DQ5T)/(DQ3T)/(DQ5T) (io), F7 IO, DIFFIO_T9p (io), F8 IO, DIFFIO_T9n (io), F10 IO, DIFFIO_T15p (io), F11 IO, VREFB8N1 (io), F12 IO, DIFFIO_T16p, (DATA13) (io), F14 IO, DIFFIO_T22p (io), G8 IO (io), G9 IO, VREFB8N3 (io), G10 IO, DIFFIO_T12p (io), G11 IO, DIFFIO_T11n (io), G12 IO, VREFB8N2 (io), G13 IO, DIFFIO_T18n, (PADD19) (io), G14 IO, VREFB8N0 (io), H8 IO, DIFFIO_T1n (io), H10 IO, DIFFIO_T7p (io), H12 IO, DIFFIO_T21n (io), H13 IO, DIFFIO_T18p, (DATA15), (DQ3T)/(DQ3T)/(DQ5T) (io), J10 IO, DIFFIO_T10p (io), J12 IO, DIFFIO_T21p (io), K13 IO, DIFFIO_T22n (io)
part I pins: A14 CLK10, DIFFCLK_4n (in), A15 CLK8, DIFFCLK_5n (in), AG14 CLK15, DIFFCLK_6p (in), AG15 CLK13, DIFFCLK_7p (in), AH14 CLK14, DIFFCLK_6n (in), AH15 CLK12, DIFFCLK_7n (in), B14 CLK11, DIFFCLK_4p (in), B15 CLK9, DIFFCLK_5p (in), J1 CLK1, DIFFCLK_0n (in), J27 CLK4, DIFFCLK_2p (in), J28 CLK5, DIFFCLK_2n (in), Y1 CLK3, DIFFCLK_1n (in), Y2 CLK2, DIFFCLK_1p (in), Y27 CLK6, DIFFCLK_3p (in), Y28 CLK7, DIFFCLK_3n (in)
part J pins: M6 nSTATUS (io), M22 MSEL2 (in), N22 MSEL0 (in), P3 DCLK (io), P4 nCONFIG (in), P5 TCK (in), P6 TDO (out), P7 TDI (in), P8 TMS (in), P22 MSEL3 (in), P23 MSEL1 (in), P24 CONF_DONE (io), R8 nCE (in)
part K pins: A2 VCCIO8 (power), A5 VCCIO8 (power), A9 VCCIO8 (power), A13 VCCIO8 (power), A16 VCCIO7 (power), A20 VCCIO7 (power), A24 VCCIO7 (power), A27 VCCIO7 (power), AA1 VCCIO2 (power), AA11 VCCIO3 (power), AA18 VCCIO4 (power), AA28 VCCIO5 (power), AB10 VCCIO3 (power), AD6 VCCIO3 (power), AD9 VCCIO3 (power), AD13 VCCIO3 (power), AD16 VCCIO4 (power), AD20 VCCIO4 (power), AD23 VCCIO4 (power), AG1 VCCIO2 (power), AG28 VCCIO5 (power), AH2 VCCIO3 (power), AH5 VCCIO3 (power), AH9 VCCIO3 (power), AH13 VCCIO3 (power), AH16 VCCIO4 (power), AH20 VCCIO4 (power), AH24 VCCIO4 (power), AH27 VCCIO4 (power), B1 VCCIO1 (power), B28 VCCIO6 (power), E6 VCCIO8 (power), E9 VCCIO8 (power), E13 VCCIO8 (power), E16 VCCIO7 (power), E20 VCCIO7 (power), E23 VCCIO7 (power), H1 VCCIO1 (power), H11 VCCIO8 (power), H18 VCCIO7 (power), H28 VCCIO6 (power), J13 VCCIO8 (power), J15 VCCIO7 (power), K5 VCCIO1 (power), K8 VCCIO1 (power), K9 VCCINT (power), K11 VCCINT (power), K17 VCCINT (power), K19 VCCINT (power), K24 VCCIO6 (power), L10 VCCINT (power), L12 VCCINT (power), L14 VCCINT (power), L16 VCCINT (power), L18 VCCINT (power), L21 VCCIO6 (power), M11 VCCINT (power), M13 VCCINT (power), M15 VCCINT (power), M17 VCCINT (power), M19 VCCINT (power), N1 VCCIO1 (power), N5 VCCIO1 (power), N10 VCCINT (power), N12 VCCINT (power), N14 VCCINT (power), N16 VCCINT (power), N18 VCCINT (power), N20 VCCINT (power), N24 VCCIO6 (power), N28 VCCIO6 (power), P9 VCCINT (power), P11 VCCINT (power), P13 VCCINT (power), P15 VCCINT (power), P17 VCCINT (power), P19 VCCINT (power), R10 VCCINT (power), R12 VCCINT (power), R14 VCCINT (power), R16 VCCINT (power), R18 VCCINT (power), R20 VCCINT (power), T1 VCCIO2 (power), T5 VCCIO2 (power), T11 VCCINT (power), T13 VCCINT (power), T15 VCCINT (power), T17 VCCINT (power), T19 VCCINT (power), T24 VCCIO5 (power), T28 VCCIO5 (power), U10 VCCINT (power), U12 VCCINT (power), U14 VCCINT (power), U16 VCCINT (power), U18 VCCINT (power), U21 VCCIO5 (power), V11 VCCINT (power), V13 VCCINT (power), V15 VCCINT (power), V17 VCCINT (power), V19 VCCINT (power), W5 VCCIO2 (power), W7 VCCIO2 (power), W12 VCCINT (power), W14 VCCINT (power), W18 VCCINT (power), W24 VCCIO5 (power), Y16 VCCIO4 (power)
part L pins: AA2 GND (power), AA27 GND (power), AC6 GND (power), AC9 GND (power), AC13 GND (power), AC16 GND (power), AC20 GND (power), AC23 GND (power), AF1 GND (power), AF28 GND (power), AG2 GND (power), AG5 GND (power), AG9 GND (power), AG13 GND (power), AG16 GND (power), AG20 GND (power), AG24 GND (power), AG27 GND (power), B2 GND (power), B5 GND (power), B9 GND (power), B12 GND (power), B13 GND (power), B16 GND (power), B20 GND (power), B24 GND (power), B27 GND (power), C1 GND (power), C28 GND (power), D3 GND (power), F6 GND (power), F9 GND (power), F13 GND (power), F16 GND (power), F20 GND (power), F23 GND (power), H2 GND (power), H27 GND (power), J2 GND (power), J11 GND (power), J18 GND (power), K6 GND (power), K10 GND (power), K12 GND (power), K14 GND (power), K16 GND (power), K18 GND (power), K20 GND (power), K23 GND (power), L9 GND (power), L11 GND (power), L13 GND (power), L15 GND (power), L17 GND (power), L19 GND (power), M10 GND (power), M12 GND (power), M14 GND (power), M16 GND (power), M18 GND (power), M20 GND (power), N2 GND (power), N6 GND (power), N9 GND (power), N11 GND (power), N13 GND (power), N15 GND (power), N17 GND (power), N19 GND (power), N23 GND (power), N27 GND (power), P10 GND (power), P12 GND (power), P14 GND (power), P16 GND (power), P18 GND (power), P20 GND (power), R9 GND (power), R11 GND (power), R13 GND (power), R15 GND (power), R17 GND (power), R19 GND (power), T2 GND (power), T6 GND (power), T10 GND (power), T12 GND (power), T14 GND (power), T16 GND (power), T18 GND (power), T20 GND (power), T23 GND (power), T27 GND (power), U9 GND (power), U11 GND (power), U13 GND (power), U15 GND (power), U17 GND (power), U19 GND (power), V10 GND (power), V12 GND (power), V14 GND (power), V16 GND (power), V18 GND (power), W6 GND (power), W11 GND (power), W13 GND (power), W15 GND (power), W17 GND (power), W19 GND (power), W23 GND (power), Y11 GND (power), Y18 GND (power)
part M pins: AA9 GNDA1 (power), AA20 GNDA4 (power), H9 GNDA3 (power), H20 GNDA2 (power), J8 VCCA3 (power), J9 VCCD_PLL3 (power), J20 VCCD_PLL2 (power), J21 VCCA2 (power), Y8 VCCA1 (power), Y9 VCCD_PLL1 (power), Y20 VCCD_PLL4 (power), Y21 VCCA4 (power)
part A text: BANK 1
part B text: BANK 2
part C text: BANK 3
part D text: BANK 4
part E text: BANK 5
part F text: BANK 6
part G text: BANK 7
part H text: BANK 8

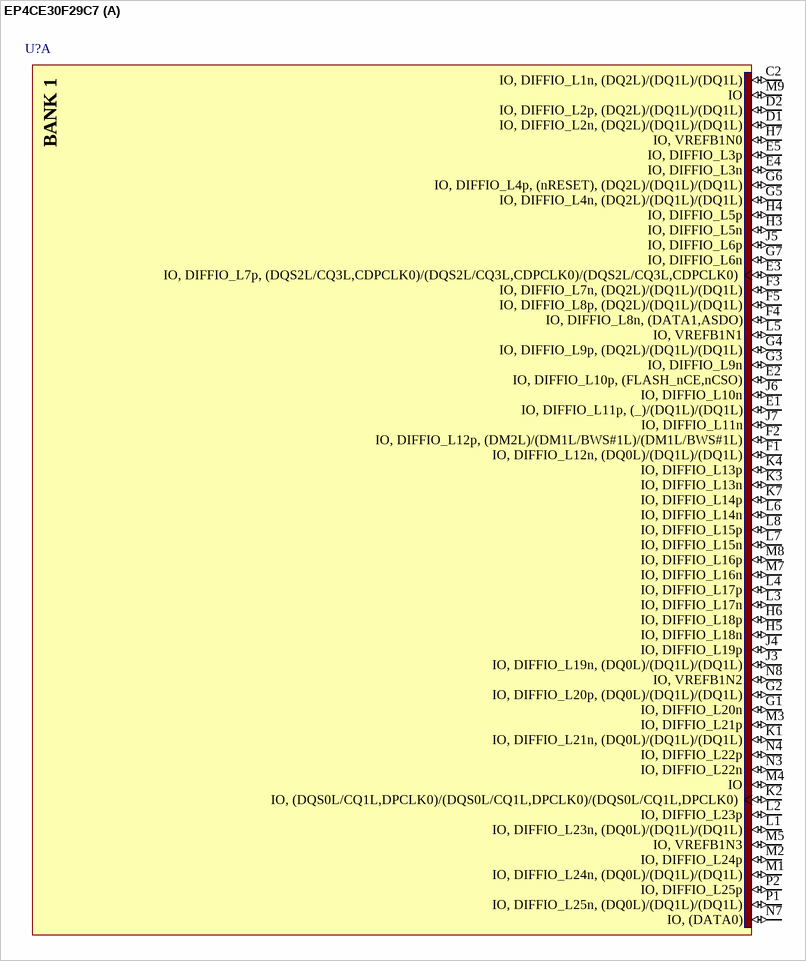
[diagram p120: symbol EP4CE30F29C7]

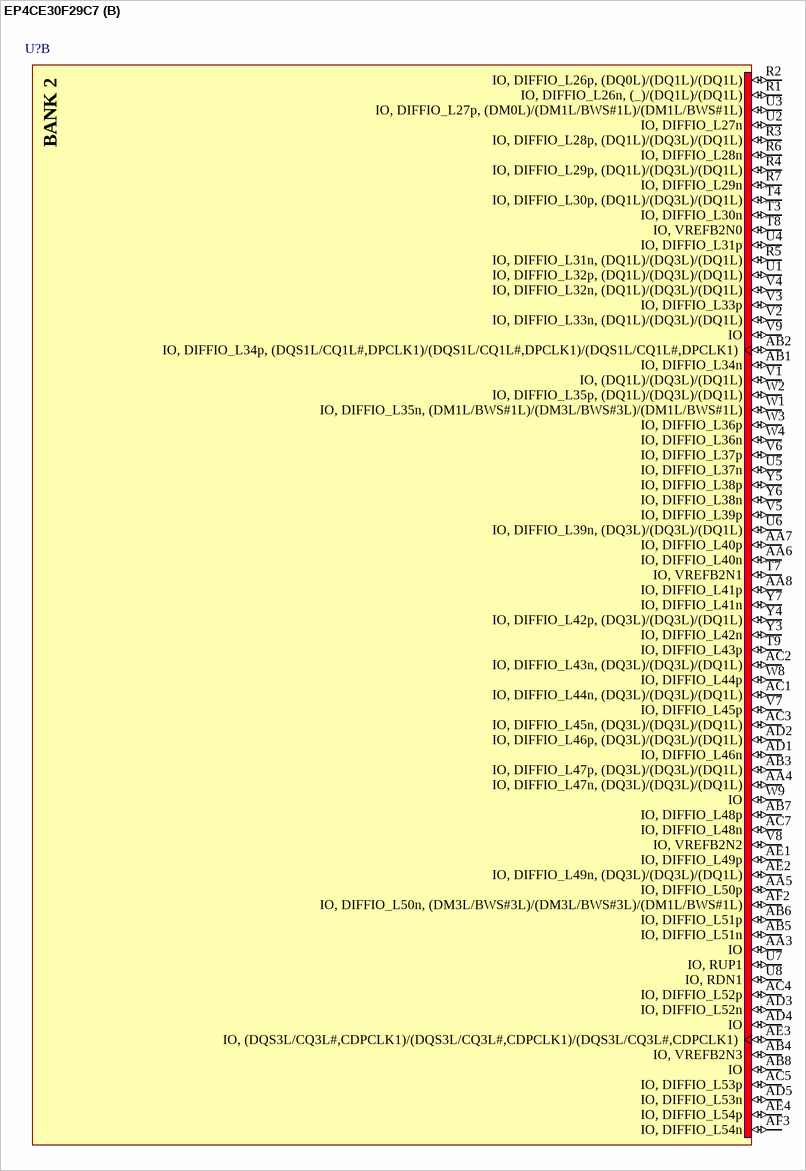
[diagram p121: symbol EP4CE30F29C7]

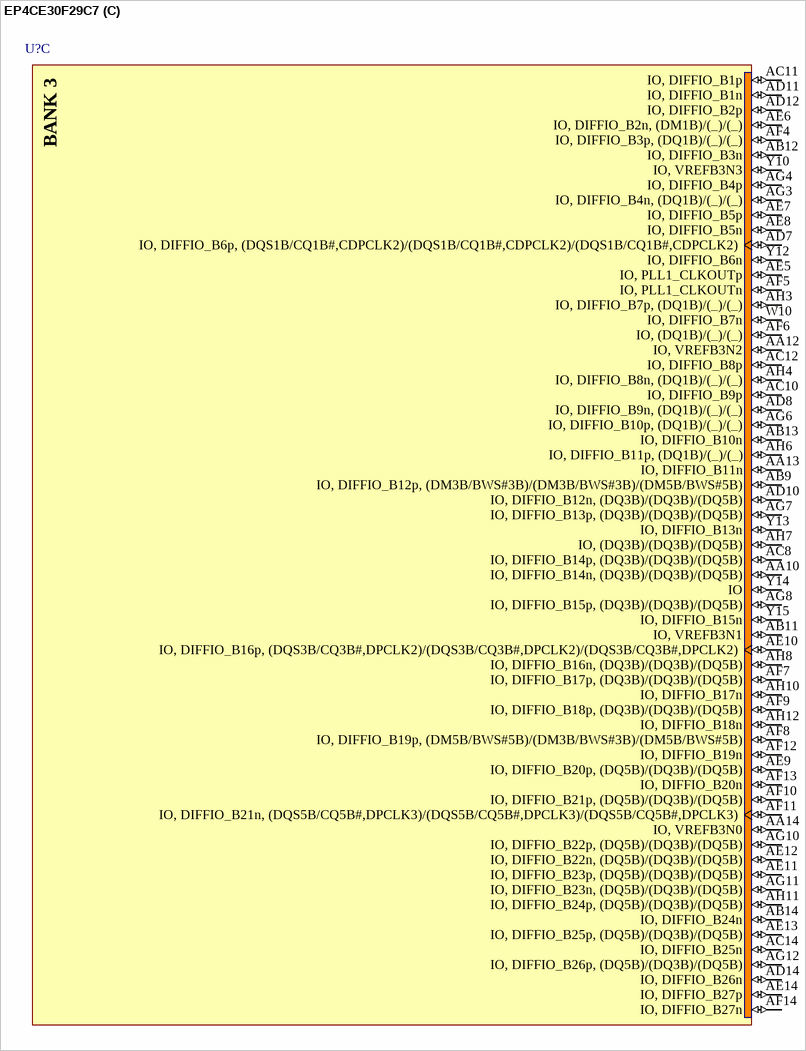
[diagram p122: symbol EP4CE30F29C7]

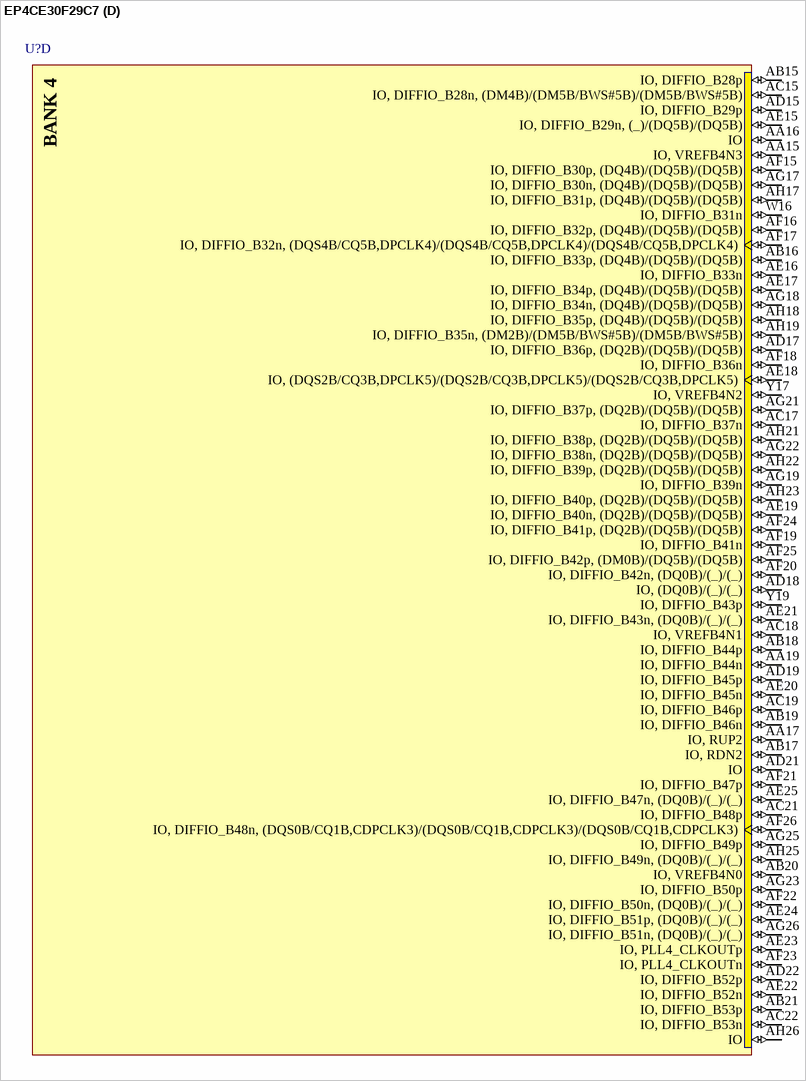
[diagram p123: symbol EP4CE30F29C7]

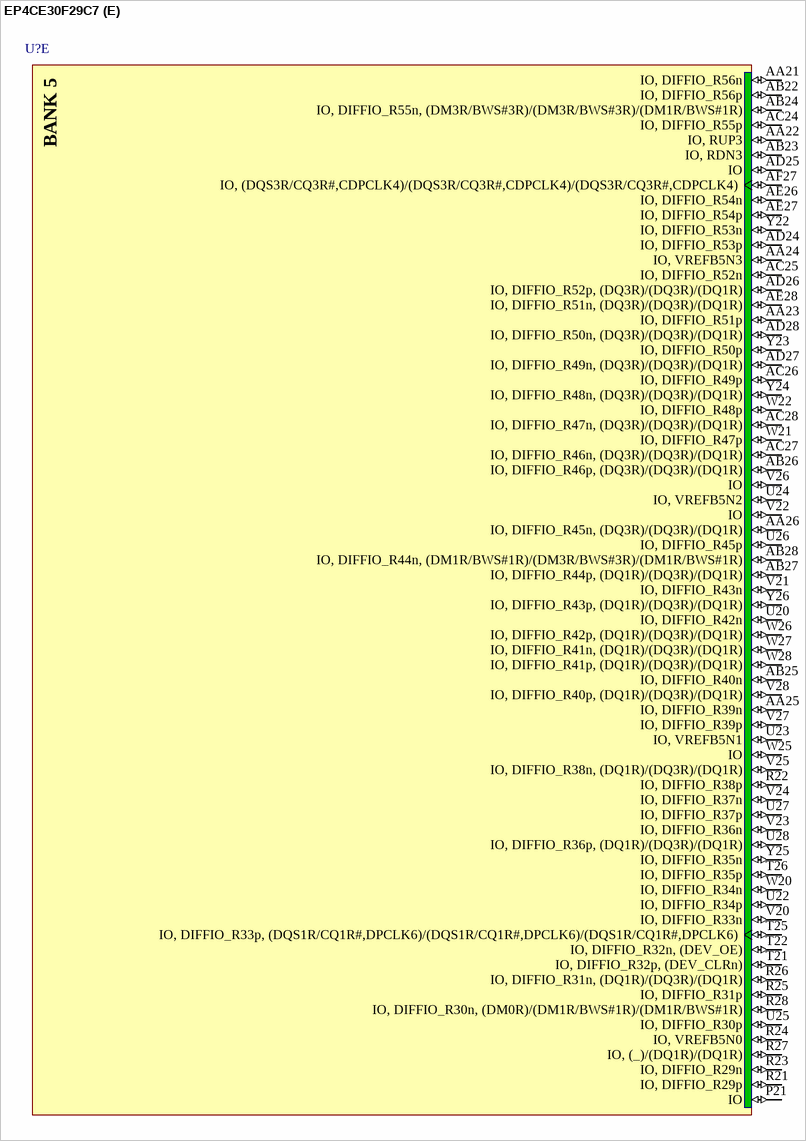
[diagram p124: symbol EP4CE30F29C7]

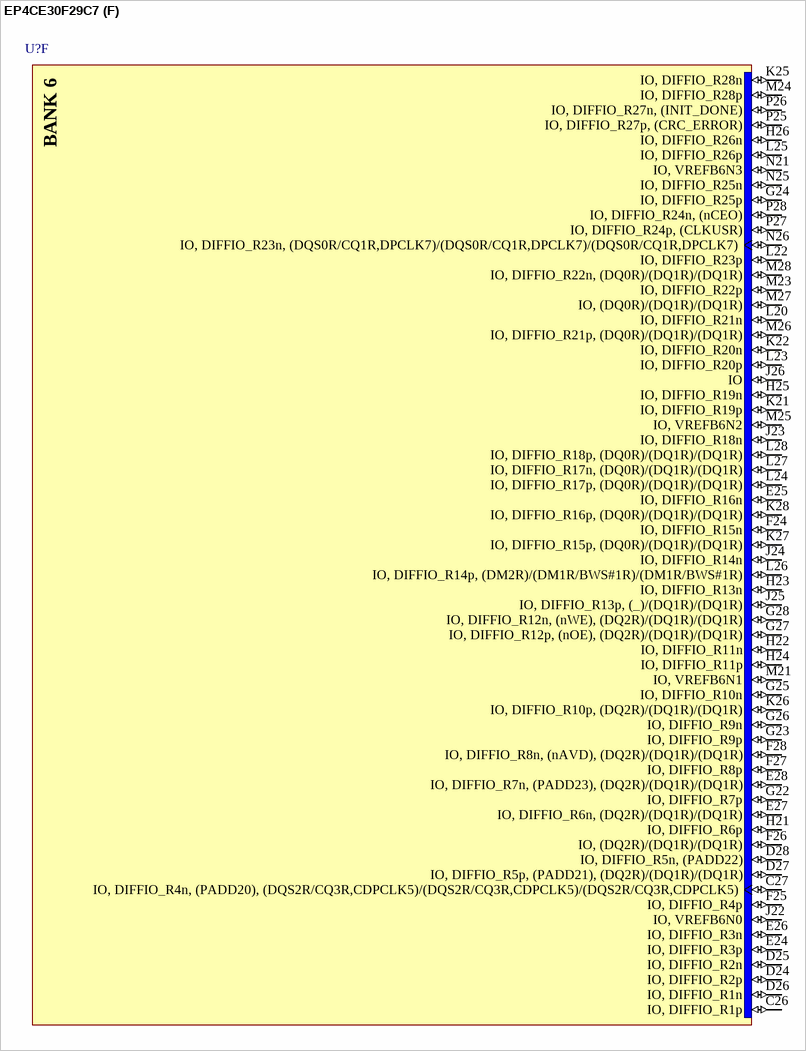
[diagram p125: symbol EP4CE30F29C7]

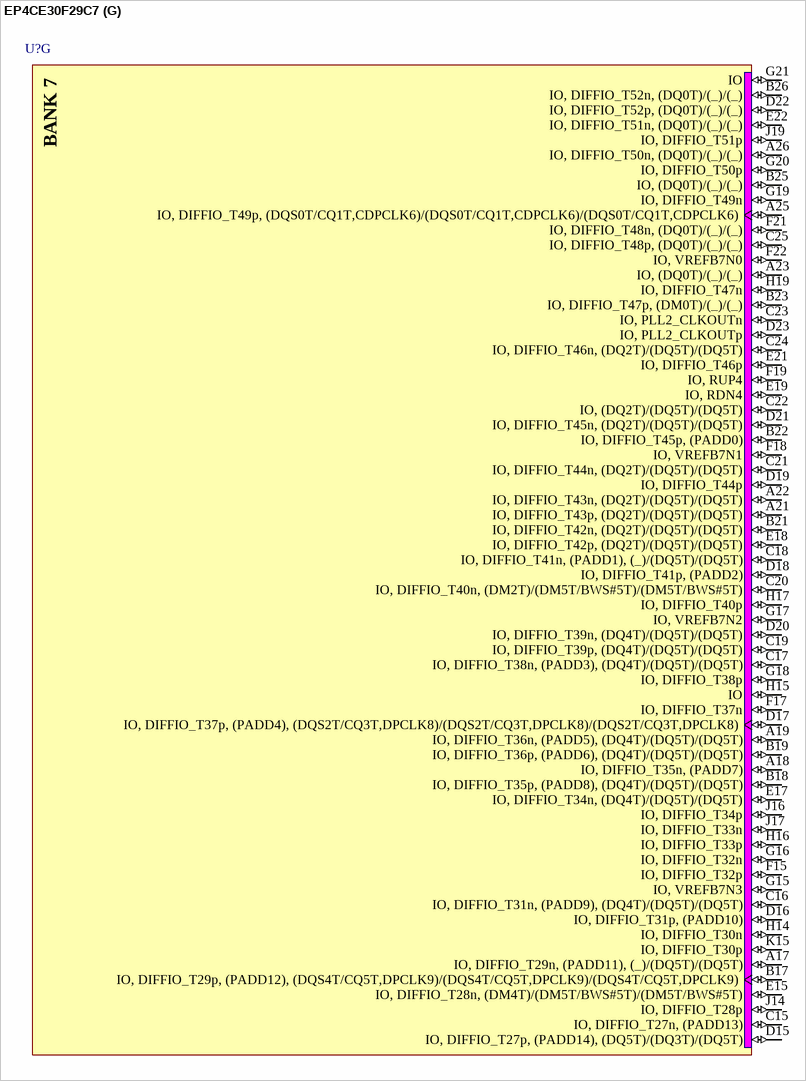
[diagram p126: symbol EP4CE30F29C7]

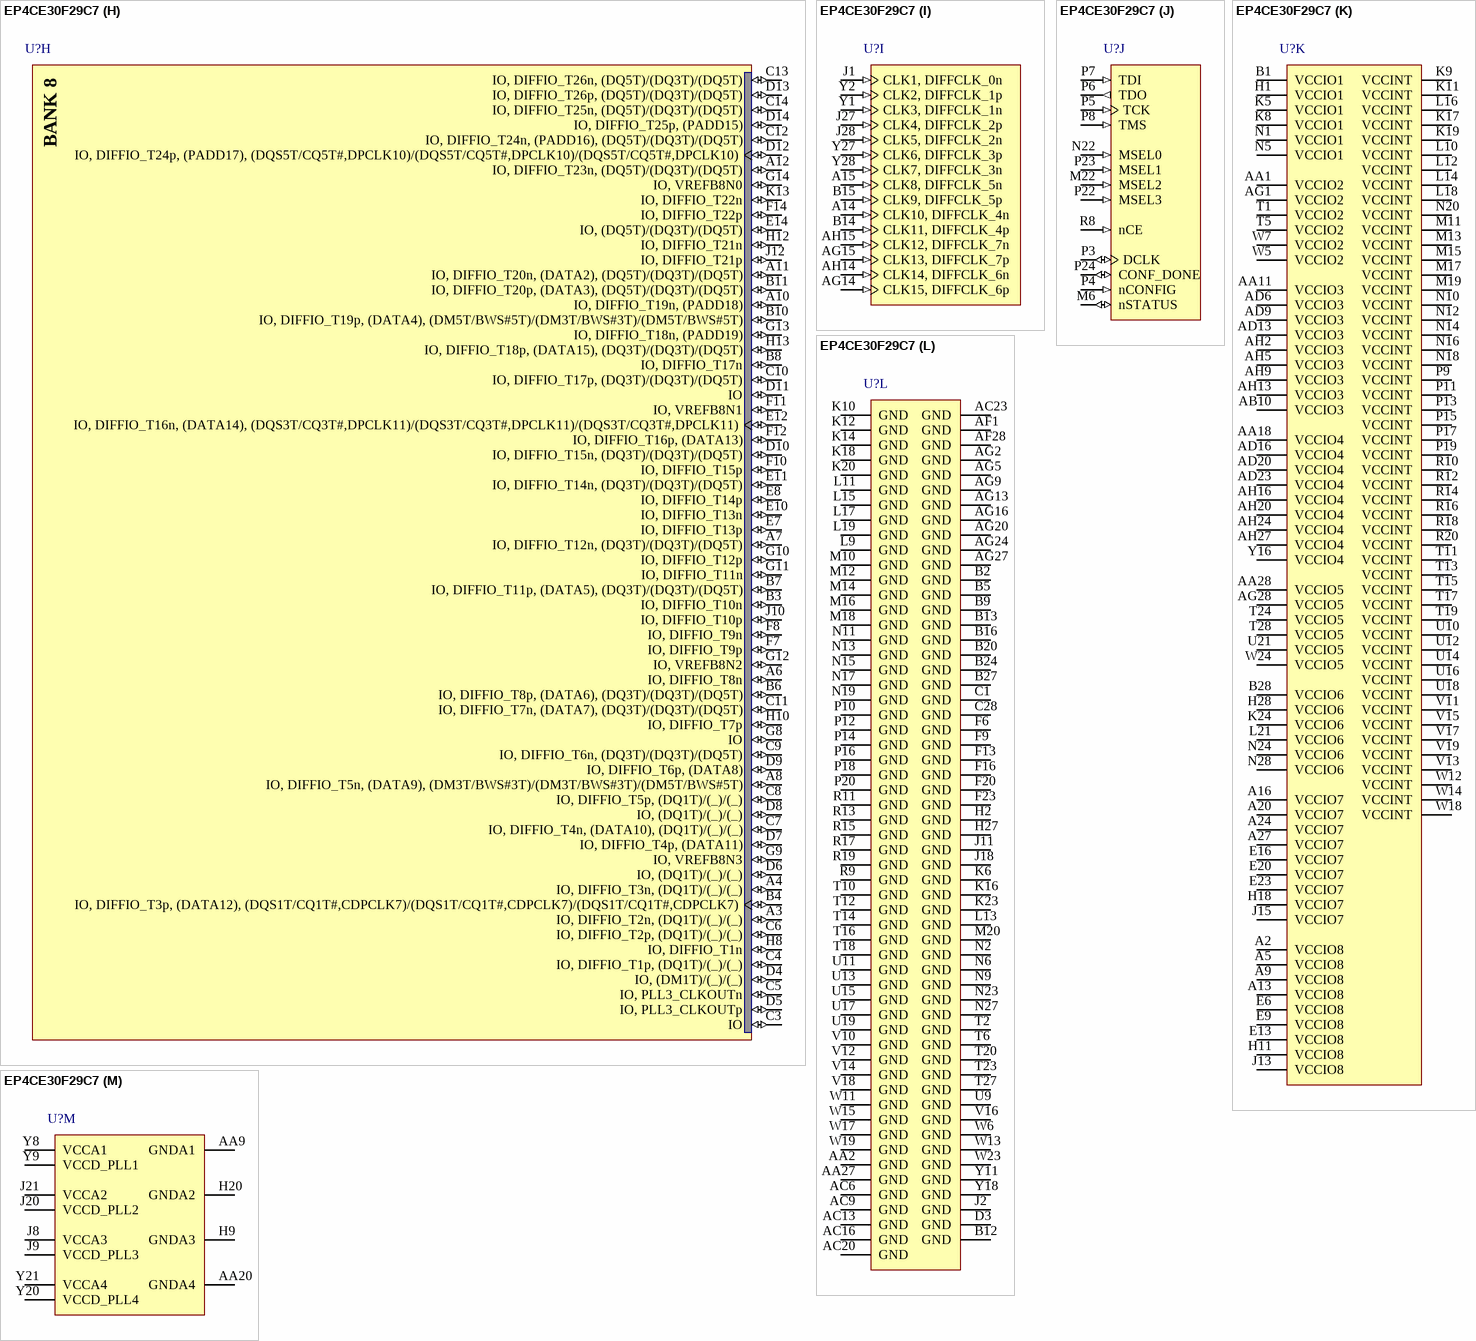
[diagram p127: symbol EP4CE30F29C7]